# Altium schematic symbol library Amplifier_Operational.SchLib: 354 symbols (part 3 of 4)
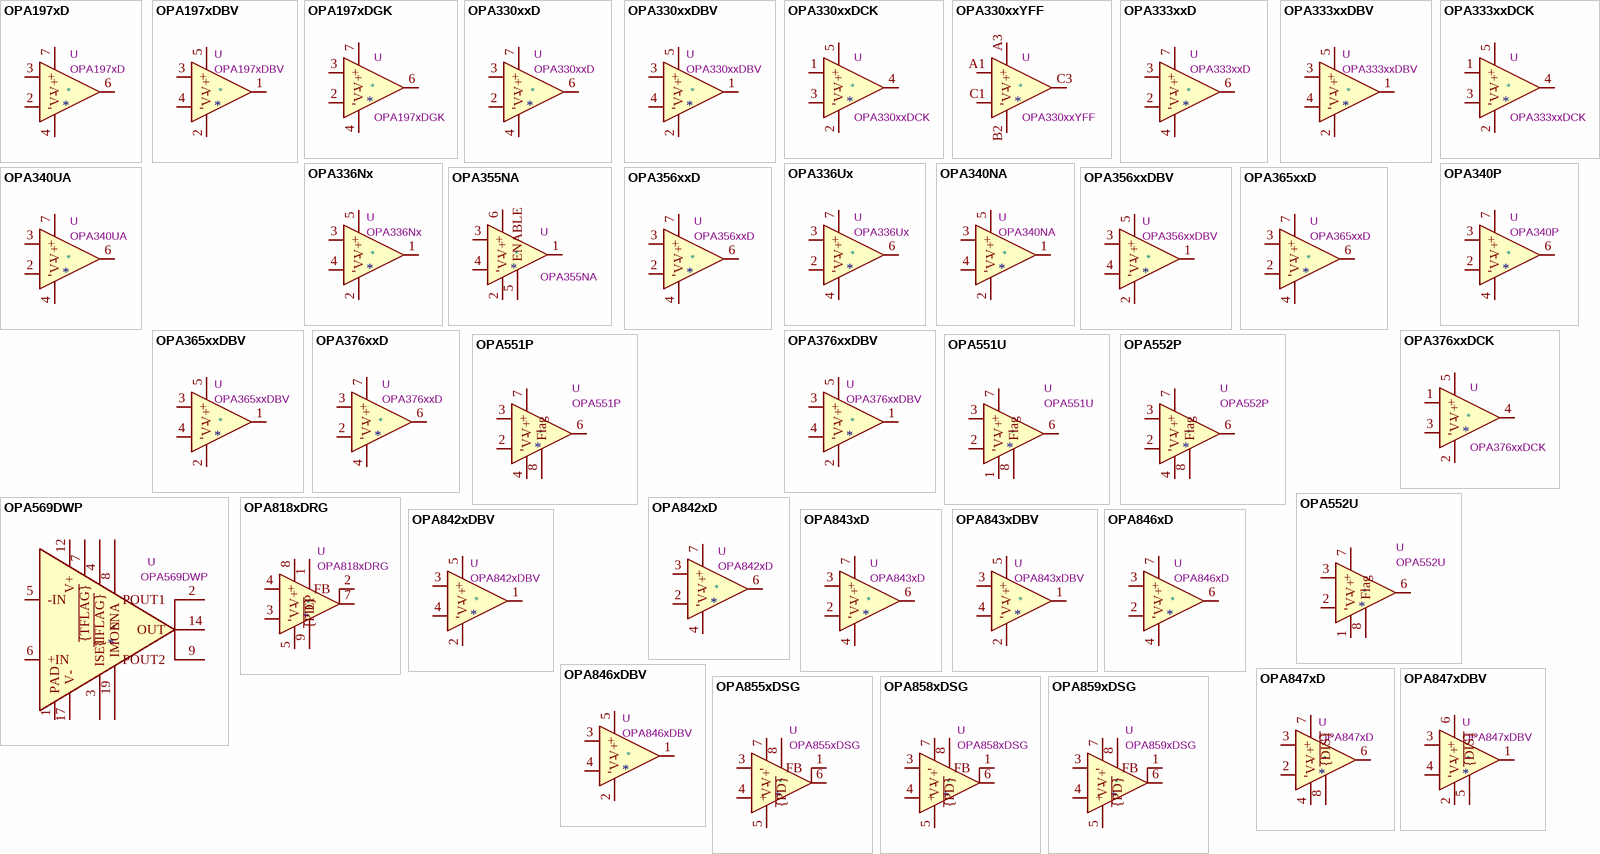
[diagram p21: symbols OPA197xD to OPA859xDSG]

## OPA376xxD
designator *  value OPA376xxD  Reference: U
ki_keywords: single opamp; ki_description: Single Low-Noise, Low Quiescent Current, Precision Operational Amplifier e-trim Series, SOIC-8; ki_fp_filters: SOIC*3.9x4.9mm*P1.27mm*; Footprint: Package_SO:SOIC-8_3.9x4.9mm_P1.27mm; Datasheet: http://www.ti.com/lit/ds/symlink/opa376.pdf
pins: 1 NC hidden, 2 -, 3 +, 4 V-, 5 NC hidden, 6, 7 V+, 8 NC hidden

## OPA376xxDBV
designator *  value OPA376xxDBV  Reference: U
ki_keywords: single opamp; ki_description: Single Low-Noise, Low Quiescent Current, Precision Operational Amplifier e-trim Series, SOT-23-5; ki_fp_filters: SOT?23*; Footprint: Package_TO_SOT_SMD:SOT-23-5; Datasheet: http://www.ti.com/lit/ds/symlink/opa376.pdf
pins: 1, 2 V-, 3 +, 4 -, 5 V+

## OPA376xxDCK
designator *  value OPA376xxDCK  Reference: U
ki_keywords: single opamp; ki_description: Single Low-Noise, Low Quiescent Current, Precision Operational Amplifier e-trim Series, SC-70-5; ki_fp_filters: SOT?23* *SC*70*; Datasheet: http://www.ti.com/lit/ds/symlink/opa376.pdf
pins: 1 +, 2 V-, 3 -, 4, 5 V+

## OPA551P
designator *  value OPA551P  Reference: U
ki_keywords: single opamp; ki_description: High-Voltage High-Current Operational Amplifier, bandwidth 3MHz, slew-rate 15V/us, DIP-8; ki_fp_filters: DIP*W7.62mm*; Footprint: Package_DIP:DIP-8_W7.62mm; Datasheet: http://www.ti.com/lit/ds/symlink/opa551.pdf
pins: 1 NC hidden, 2 -, 3 +, 4 V-, 5 NC hidden, 6, 7 V+, 8 Flag

## OPA551U
designator *  value OPA551U  Reference: U
ki_keywords: single opamp; ki_description: High-Voltage High-Current Operational Amplifier, bandwidth 3MHz, slew-rate 15V/us, SOIC-8; ki_fp_filters: SOIC*3.9x4.9mm*P1.27mm*; Footprint: Package_SO:SOIC-8_3.9x4.9mm_P1.27mm; Datasheet: http://www.ti.com/lit/ds/symlink/opa551.pdf
pins: 1 V-, 2 -, 3 +, 4 V- hidden, 5 V- hidden, 6, 7 V+, 8 Flag

## OPA552P
designator *  value OPA552P  Reference: U
ki_keywords: single opamp; ki_description: High-Voltage High-Current Operational Amplifier, bandwidth 12MHz, slew-rate 24V/us, DIP-8; ki_fp_filters: DIP*W7.62mm*; Footprint: Package_DIP:DIP-8_W7.62mm; Datasheet: http://www.ti.com/lit/ds/symlink/opa552.pdf
pins: 1 NC hidden, 2 -, 3 +, 4 V-, 5 NC hidden, 6, 7 V+, 8 Flag

## OPA552U
designator *  value OPA552U  Reference: U
ki_keywords: single opamp; ki_description: High-Voltage High-Current Operational Amplifier, bandwidth 12MHz, slew-rate 24V/us, SOIC-8; ki_fp_filters: SOIC*3.9x4.9mm*P1.27mm*; Footprint: Package_SO:SOIC-8_3.9x4.9mm_P1.27mm; Datasheet: http://www.ti.com/lit/ds/symlink/opa552.pdf
pins: 1 V-, 2 -, 3 +, 4 V- hidden, 5 V- hidden, 6, 7 V+, 8 Flag

## OPA569DWP
designator *  value OPA569DWP  Reference: U
ki_keywords: opamp single high current; ki_description: Rail-to-Rail I/O, 2A, Power Amplifier, SO-20; ki_fp_filters: SO*1EP*7.52x12.825mm*P1.27mm*; Footprint: Package_SO:SO-20-1EP_7.52x12.825mm_P1.27mm_EP6.045x12.09mm_Mask3.56x4.47mm; Datasheet: http://www.ti.com/lit/ds/symlink/opa569.pdf
pins: 1 PAD, 2 POUT1, 3 ISET, 4 ~{{IFLAG}}, 5 -IN, 6 +IN, 7 ~{{TFLAG}}, 8 ENA, 9 POUT2, 10 PAD hidden, 11 PAD hidden, 12 V+, 13 V+ hidden, 14 OUT, 15 OUT hidden, 16 NC hidden, 17 V-, 18 V- hidden, 19 IMON, 20 PAD hidden, 21 PAD hidden

## OPA818xDRG
designator *  value OPA818xDRG  Reference: U
ki_keywords: opamp VFA; ki_description: 2.7 GHz, High-Voltage, FET-Input, Low Noise, Operational Amplifier, WSON-8; ki_fp_filters: WSON*1EP*3x3mm*EP1.45x2.4mm*; Footprint: Package_SON:WSON-8-1EP_3x3mm_P0.5mm_EP1.45x2.4mm; Datasheet: https://www.ti.com/lit/ds/symlink/opa818.pdf
pins: 1 ~{{PD}}, 2 FB, 3 -, 4 +, 5 V-, 6 NC hidden, 7, 8 V+, 9 EP

## OPA842xD
designator *  value OPA842xD  Reference: U
ki_keywords: single opamp; ki_description: 200MHz, Low Distortion, Unity-Gain Stable, Voltage Feedback Operational Amplifier, SOIC-8; ki_fp_filters: SOIC*3.9x4.9mm*P1.27mm*; Footprint: Package_SO:SOIC-8_3.9x4.9mm_P1.27mm; Datasheet: http://www.ti.com/lit/ds/symlink/opa842.pdf
pins: 1 NC hidden, 2 -, 3 +, 4 V-, 5 NC hidden, 6, 7 V+, 8 NC hidden

## OPA842xDBV
designator *  value OPA842xDBV  Reference: U
ki_keywords: single opamp; ki_description: 200MHz, Low Distortion, Unity-Gain Stable, Voltage Feedback Operational Amplifier, SOT23-5; ki_fp_filters: SOT?23*; Footprint: Package_TO_SOT_SMD:SOT-23-5; Datasheet: http://www.ti.com/lit/ds/symlink/opa842.pdf
pins: 1, 2 V-, 3 +, 4 -, 5 V+

## OPA843xD
designator *  value OPA843xD  Reference: U
ki_keywords: single opamp low distortion; ki_description: 800MHz, Wideband, Low Distortion, Medium Gain, Voltage-Feedback Operational Amplifier, SOIC-8; ki_fp_filters: SOIC*3.9x4.9mm*P1.27mm*; Footprint: Package_SO:SOIC-8_3.9x4.9mm_P1.27mm; Datasheet: http://www.ti.com/lit/ds/symlink/opa843.pdf
pins: 1 NC hidden, 2 -, 3 +, 4 V-, 5 NC hidden, 6, 7 V+, 8 NC hidden

## OPA843xDBV
designator *  value OPA843xDBV  Reference: U
ki_keywords: single opamp low distortion; ki_description: 800MHz, Wideband, Low Distortion, Medium Gain, Voltage-Feedback Operational Amplifier, SOT-23-5; ki_fp_filters: SOT?23*; Footprint: Package_TO_SOT_SMD:SOT-23-5; Datasheet: http://www.ti.com/lit/ds/symlink/opa843.pdf
pins: 1, 2 V-, 3 +, 4 -, 5 V+

## OPA846xD
designator *  value OPA846xD  Reference: U
ki_keywords: single opamp; ki_description: 1750MHz, Wideband, Low-Noise, Voltage Feedback Operational Amplifier, SOIC-8; ki_fp_filters: SOIC*3.9x4.9mm*P1.27mm*; Footprint: Package_SO:SOIC-8_3.9x4.9mm_P1.27mm; Datasheet: http://www.ti.com/lit/ds/symlink/opa846.pdf
pins: 1 NC hidden, 2 -, 3 +, 4 V-, 5 NC hidden, 6, 7 V+, 8 NC hidden

## OPA846xDBV
designator *  value OPA846xDBV  Reference: U
ki_keywords: single opamp; ki_description: 1750MHz, Wideband, Low-Noise, Voltage Feedback Operational Amplifier, SOT23-5; ki_fp_filters: SOT?23*; Footprint: Package_TO_SOT_SMD:SOT-23-5; Datasheet: http://www.ti.com/lit/ds/symlink/opa846.pdf
pins: 1, 2 V-, 3 +, 4 -, 5 V+

## OPA847xD
designator *  value OPA847xD  Reference: U
ki_keywords: single opamp wideband low-power; ki_description: Single Low-Power, 3.9GHz, Wideband, Ultra-Low Noise, Voltage-Feedback Operational Amplifier with Disable, SO-8; ki_fp_filters: SOIC*3.9x4.9mm*P1.27mm*; Footprint: Package_SO:SOIC-8_3.9x4.9mm_P1.27mm; Datasheet: http://www.ti.com/lit/ds/symlink/opa847.pdf
pins: 1 NC hidden, 2 -, 3 +, 4 V-, 5 NC hidden, 6, 7 V+, 8 ~{{DIS}}

## OPA847xDBV
designator *  value OPA847xDBV  Reference: U
ki_keywords: single opamp wideband low-power; ki_description: Single Low-Power, 3.9GHz, Wideband, Ultra-Low Noise, Voltage-Feedback Operational Amplifier with Disable, SOT-23-6; ki_fp_filters: SOT?23*; Footprint: Package_TO_SOT_SMD:SOT-23-6; Datasheet: http://www.ti.com/lit/ds/symlink/opa847.pdf
pins: 1, 2 V-, 3 +, 4 -, 5 ~{{DIS}}, 6 V+

## OPA855xDSG
designator *  value OPA855xDSG  Reference: U
ki_keywords: opamp VFA; ki_description: 8-GHz Gain Bandwidth Product, Gain of 7-V/V Stable, Bipolar Input Amplifier, WSON-8; ki_fp_filters: WSON*1EP*2x2mm*P0.5mm*; Footprint: Package_SON:WSON-8-1EP_2x2mm_P0.5mm_EP0.9x1.6mm; Datasheet: http://www.ti.com/lit/ds/symlink/opa855.pdf
pins: 1 FB, 2 NC hidden, 3 -, 4 +, 5 V-, 6, 7 V+, 8 ~{{PD}}, 9 V- hidden

## OPA858xDSG
designator *  value OPA858xDSG  Reference: U
ki_keywords: opamp VFA; ki_description: 5.5-GHz Gain Bandwidth Product, Gain of 7 V/V Stable, FET Input Amplifier, WSON-8; ki_fp_filters: WSON*1EP*2x2mm*P0.5mm*; Footprint: Package_SON:WSON-8-1EP_2x2mm_P0.5mm_EP0.9x1.6mm; Datasheet: http://www.ti.com/lit/ds/symlink/opa858.pdf
pins: 1 FB, 2 NC hidden, 3 -, 4 +, 5 V-, 6, 7 V+, 8 ~{{PD}}, 9 V- hidden

## OPA859xDSG
designator *  value OPA859xDSG  Reference: U
ki_keywords: opamp VFA; ki_description: 1.8 GHz Unity-Gain Bandwidth FET Input Amplifier, WSON-8; ki_fp_filters: WSON*1EP*2x2mm*P0.5mm*; Footprint: Package_SON:WSON-8-1EP_2x2mm_P0.5mm_EP0.9x1.6mm; Datasheet: http://www.ti.com/lit/ds/symlink/opa859.pdf
pins: 1 FB, 2 NC hidden, 3 -, 4 +, 5 V-, 6, 7 V+, 8 ~{{PD}}, 9 V- hidden

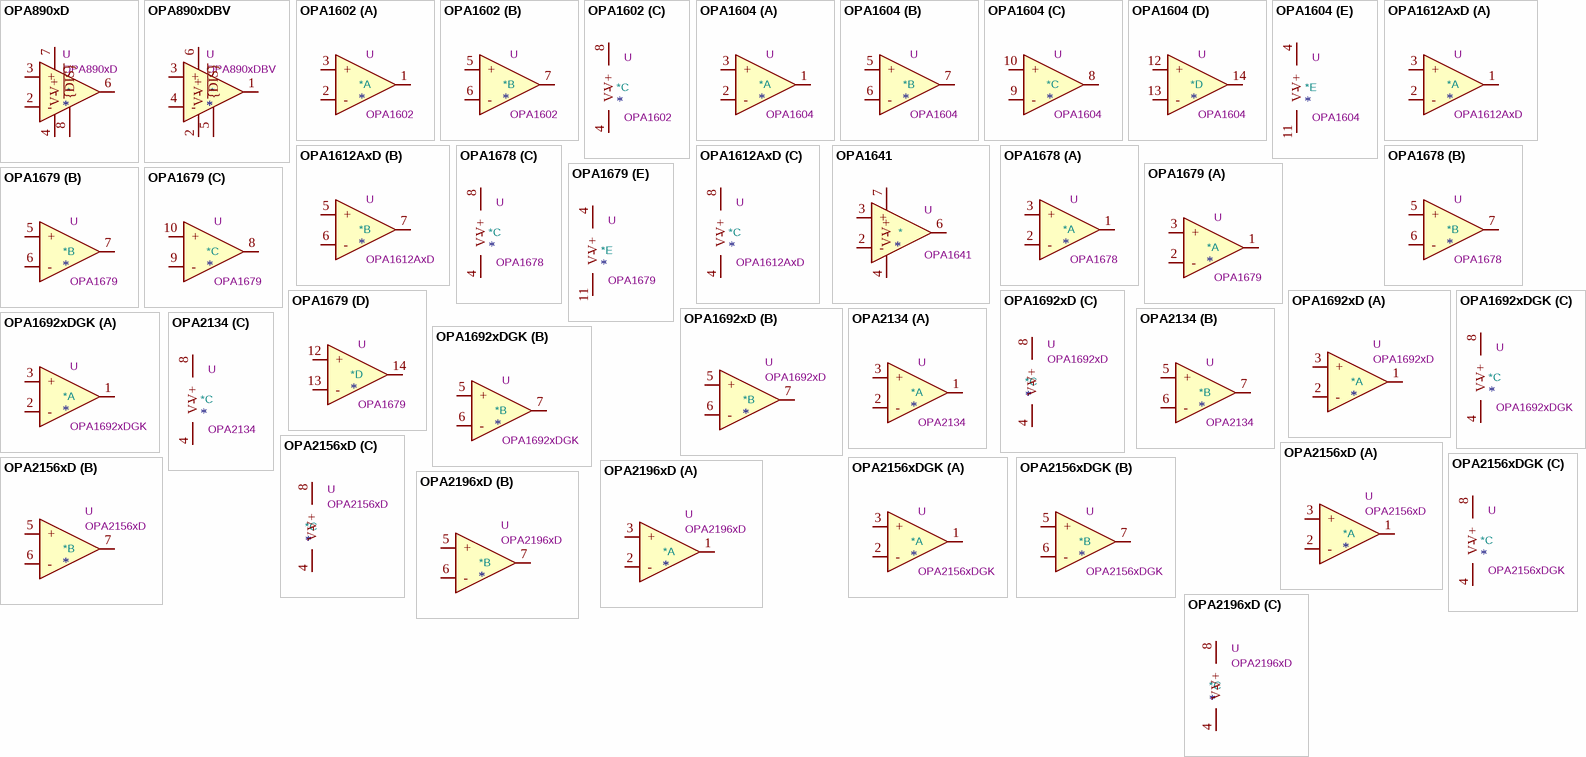
[diagram p13: symbols OPA890xD to OPA2196xD]

## OPA890xD
designator *  value OPA890xD  Reference: U
ki_keywords: single opamp wideband low-power; ki_description: Single Low-Power, Wideband, Voltage-Feedback Operational Amplifier with Disable, SO-8; ki_fp_filters: SOIC*3.9x4.9mm*P1.27mm*; Footprint: Package_SO:SOIC-8_3.9x4.9mm_P1.27mm; Datasheet: https://www.ti.com/lit/ds/symlink/opa890.pdf
pins: 1 NC hidden, 2 -, 3 +, 4 V-, 5 NC hidden, 6, 7 V+, 8 ~{{DIS}}

## OPA890xDBV
designator *  value OPA890xDBV  Reference: U
ki_keywords: single opamp wideband low-power; ki_description: Single Low-Power, Wideband, Voltage-Feedback Operational Amplifier with Disable, SOT-23-6; ki_fp_filters: SOT?23*; Footprint: Package_TO_SOT_SMD:SOT-23-6; Datasheet: https://www.ti.com/lit/ds/symlink/opa890.pdf
pins: 1, 2 V-, 3 +, 4 -, 5 ~{{DIS}}, 6 V+

## OPA1602
designator *  value OPA1602  Reference: U
ki_keywords: dual opamp; ki_description: Dual SoundPlus High Performance, Bipolar-Input Audio Operational Amplifiers, SOIC-8/MSOP-8; ki_fp_filters: SOIC*3.9x4.9mm*P1.27mm* DIP*W7.62mm* TO*99* OnSemi*Micro8* TSSOP*3x3mm*P0.65mm* TSSOP*4.4x3mm*P0.65mm* MSOP*3x3mm*P0.65mm* SSOP*3.9x4.9mm*P0.635mm* LFCSP*2x2mm*P0.5mm* *SIP* SOIC*5.3x6.2mm*P1.27mm*; Datasheet: http://www.ti.com/lit/ds/symlink/opa1604.pdf
part A pins: 1, 2 -, 3 +
part B pins: 5 +, 6 -, 7
part C pins: 4 V-, 8 V+

## OPA1604
designator *  value OPA1604  Reference: U
ki_keywords: quad opamp; ki_description: Quad SoundPlus High Performance, Bipolar-Input Audio Operational Amplifiers, SOIC-14/TSSOP-14; ki_fp_filters: SOIC*3.9x8.7mm*P1.27mm* DIP*W7.62mm* TSSOP*4.4x5mm*P0.65mm* SSOP*5.3x6.2mm*P0.65mm* MSOP*3x3mm*P0.5mm*; Datasheet: http://www.ti.com/lit/ds/symlink/opa1604.pdf
part A pins: 1, 2 -, 3 +
part B pins: 5 +, 6 -, 7
part C pins: 8, 9 -, 10 +
part D pins: 12 +, 13 -, 14
part E pins: 4 V+, 11 V-

## OPA1612AxD
designator *  value OPA1612AxD  Reference: U
ki_keywords: dual opamp; ki_description: Dual SoundPlus High Performance, Bipolar-Input Audio Operational Amplifiers, SOIC-8; ki_fp_filters: SOIC*3.9x4.9mm*P1.27mm* DIP*W7.62mm* TO*99* OnSemi*Micro8* TSSOP*3x3mm*P0.65mm* TSSOP*4.4x3mm*P0.65mm* MSOP*3x3mm*P0.65mm* SSOP*3.9x4.9mm*P0.635mm* LFCSP*2x2mm*P0.5mm* *SIP* SOIC*5.3x6.2mm*P1.27mm*; Datasheet: http://www.ti.com/lit/ds/symlink/opa1612.pdf
part A pins: 1, 2 -, 3 +
part B pins: 5 +, 6 -, 7
part C pins: 4 V-, 8 V+

## OPA1641
designator *  value OPA1641  Reference: U
ki_keywords: single opamp; ki_description: JFET input, ultralow distortion, low-noise operational amplifier, SOIC-8/VSSOP-8; ki_fp_filters: SOIC*3.9x4.9mm*P1.27mm* VSSOP*3.0x3.0mm*P0.65mm*; Datasheet: http://www.ti.com/lit/ds/symlink/opa1641.pdf
pins: 1 NC hidden, 2 -, 3 +, 4 V-, 5 NC hidden, 6, 7 V+, 8 NC hidden

## OPA1678
designator *  value OPA1678  Reference: U
ki_keywords: dual opamp; ki_description: Low-Distortion Audio Operational Amplifiers, SOIC-8/VSSOP-8; ki_fp_filters: SOIC*3.9x4.9mm*P1.27mm* DIP*W7.62mm* TO*99* OnSemi*Micro8* TSSOP*3x3mm*P0.65mm* TSSOP*4.4x3mm*P0.65mm* MSOP*3x3mm*P0.65mm* SSOP*3.9x4.9mm*P0.635mm* LFCSP*2x2mm*P0.5mm* *SIP* SOIC*5.3x6.2mm*P1.27mm*; Datasheet: http://www.ti.com/lit/ds/symlink/opa1678.pdf
part A pins: 1, 2 -, 3 +
part B pins: 5 +, 6 -, 7
part C pins: 4 V-, 8 V+

## OPA1679
designator *  value OPA1679  Reference: U
ki_keywords: quad opamp; ki_description: Low-Distortion Audio Operational Amplifiers, SOIC-14/TSSOP-14; ki_fp_filters: SOIC*3.9x8.7mm*P1.27mm* DIP*W7.62mm* TSSOP*4.4x5mm*P0.65mm* SSOP*5.3x6.2mm*P0.65mm* MSOP*3x3mm*P0.5mm*; Datasheet: http://www.ti.com/lit/ds/symlink/opa1678.pdf
part A pins: 1, 2 -, 3 +
part B pins: 5 +, 6 -, 7
part C pins: 8, 9 -, 10 +
part D pins: 12 +, 13 -, 14
part E pins: 4 V+, 11 V-

## OPA1692xD
designator *  value OPA1692xD  Reference: U
ki_keywords: VFA opamp; ki_description: Dual SoundPlus Low Power, Low Noise & Low Distortion Audio Operational Amplifiers, SOIC-8; ki_fp_filters: SOIC*3.9x4.9mm*P1.27mm*; Footprint: Package_SO:SOIC-8_3.9x4.9mm_P1.27mm; Datasheet: https://www.ti.com/lit/ds/symlink/opa1692.pdf
part A pins: 1, 2 -, 3 +
part B pins: 5 +, 6 -, 7
part C pins: 4 V-, 8 V+

## OPA1692xDGK
designator *  value OPA1692xDGK  Reference: U
ki_keywords: VFA opamp; ki_description: Dual SoundPlus Low Power, Low Noise & Low Distortion Audio Operational Amplifiers, VSSOP-8; ki_fp_filters: VSSOP*3.0x3.0mm*P0.65mm*; Footprint: Package_SO:VSSOP-8_3.0x3.0mm_P0.65mm; Datasheet: https://www.ti.com/lit/ds/symlink/opa1692.pdf
part A pins: 1, 2 -, 3 +
part B pins: 5 +, 6 -, 7
part C pins: 4 V-, 8 V+

## OPA2134
designator *  value OPA2134  Reference: U
ki_keywords: dual opamp; ki_description: Dual SoundPlus High Performance Audio Operational Amplifiers, DIP-8/SOIC-8; ki_fp_filters: SOIC*3.9x4.9mm*P1.27mm* DIP*W7.62mm* TO*99* OnSemi*Micro8* TSSOP*3x3mm*P0.65mm* TSSOP*4.4x3mm*P0.65mm* MSOP*3x3mm*P0.65mm* SSOP*3.9x4.9mm*P0.635mm* LFCSP*2x2mm*P0.5mm* *SIP* SOIC*5.3x6.2mm*P1.27mm*; Datasheet: http://www.ti.com/lit/ds/symlink/opa134.pdf
part A pins: 1, 2 -, 3 +
part B pins: 5 +, 6 -, 7
part C pins: 4 V-, 8 V+

## OPA2156xD
designator *  value OPA2156xD  Reference: U
ki_keywords: dual opamp low-noise r2r; ki_description: Dual 36V, Ultra Low Noise, Rail-to-Rail Input/Output, Low Offset Voltage, Operational Amplifier, SOIC-8; ki_fp_filters: SOIC*3.9x4.9mm*P1.27mm*; Footprint: Package_SO:SOIC-8_3.9x4.9mm_P1.27mm; Datasheet: https://www.ti.com/lit/ds/symlink/opa2156.pdf
part A pins: 1, 2 -, 3 +
part B pins: 5 +, 6 -, 7
part C pins: 4 V-, 8 V+

## OPA2156xDGK
designator *  value OPA2156xDGK  Reference: U
ki_keywords: dual opamp low-noise r2r; ki_description: Dual 36V, Ultra Low Noise, Rail-to-Rail Input/Output, Low Offset Voltage, Operational Amplifier, VSSOP-8; ki_fp_filters: VSSOP*3.0x3.0mm*P0.65mm*; Footprint: Package_SO:VSSOP-8_3.0x3.0mm_P0.65mm; Datasheet: http://www.ti.com/lit/ds/symlink/opa2156.pdf
part A pins: 1, 2 -, 3 +
part B pins: 5 +, 6 -, 7
part C pins: 4 V-, 8 V+

## OPA2196xD
designator *  value OPA2196xD  Reference: U
ki_keywords: dual opamp low-power; ki_description: Dual, Low-Power, Low Offset Voltage, Rail-to-Rail Operational Amplifier, SOIC-8; ki_fp_filters: SOIC*3.9x4.9mm*P1.27mm*; Footprint: Package_SO:SOIC-8_3.9x4.9mm_P1.27mm; Datasheet: http://www.ti.com/lit/ds/symlink/opa4196.pdf
part A pins: 1, 2 -, 3 +
part B pins: 5 +, 6 -, 7
part C pins: 4 V-, 8 V+

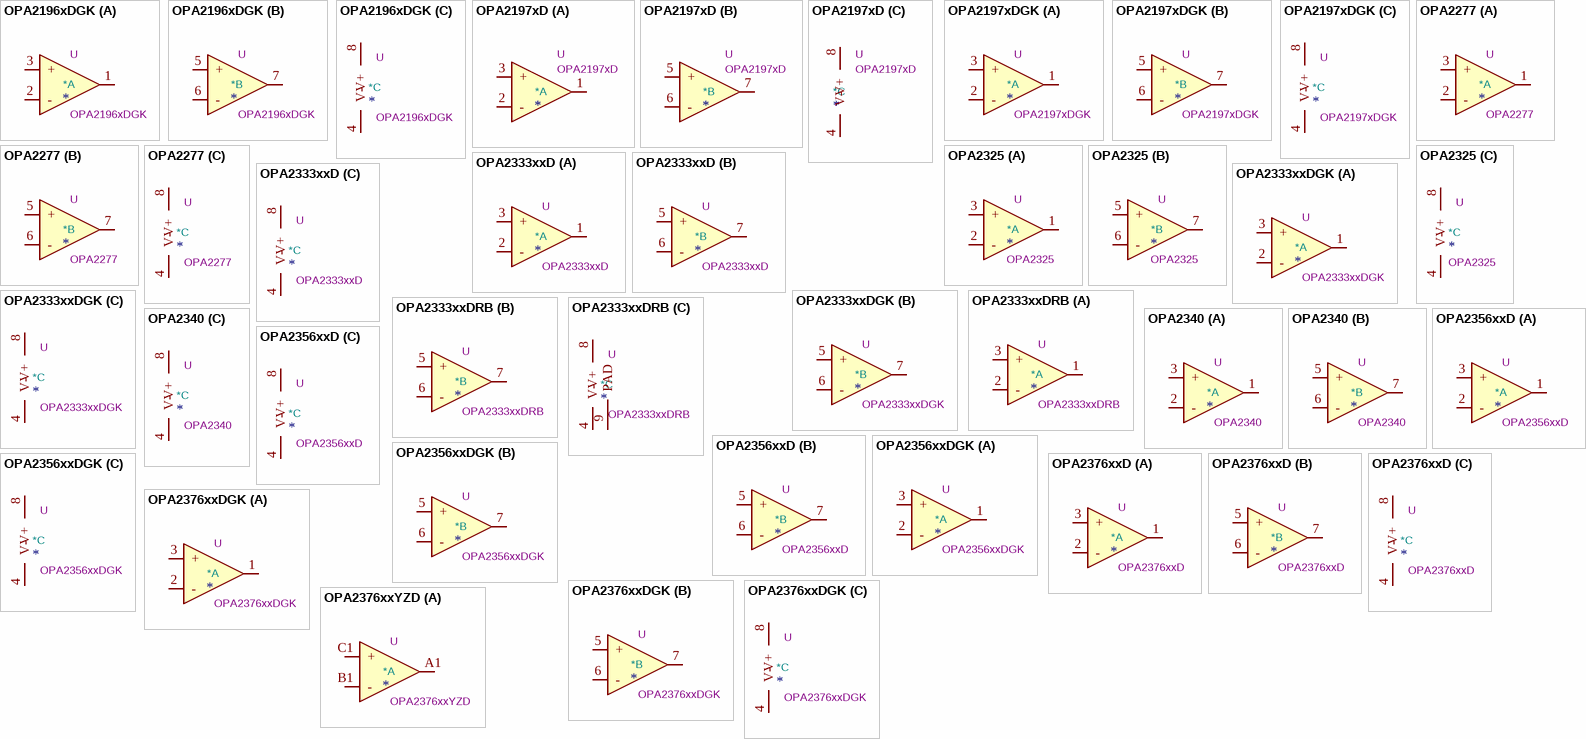
[diagram p14: symbols OPA2196xDGK to OPA2376xxYZD]

## OPA2196xDGK
designator *  value OPA2196xDGK  Reference: U
ki_keywords: dual opamp rtor; ki_description: Dual, Low-Power, Low Offset Voltage, Rail-to-Rail Operational Amplifier, VSSOP-8; ki_fp_filters: VSSOP*3.0x3.0mm*P0.65mm*; Footprint: Package_SO:VSSOP-8_3.0x3.0mm_P0.65mm; Datasheet: http://www.ti.com/lit/ds/symlink/opa4196.pdf
part A pins: 1, 2 -, 3 +
part B pins: 5 +, 6 -, 7
part C pins: 4 V-, 8 V+

## OPA2197xD
designator *  value OPA2197xD  Reference: U
ki_keywords: dual opamp rtor; ki_description: Dual 36V, Precision, Rail-to-Rail Input/Output, Low Offset Voltage, Operational Amplifier, SOIC-8; ki_fp_filters: SOIC*3.9x4.9mm*P1.27mm*; Footprint: Package_SO:SOIC-8_3.9x4.9mm_P1.27mm; Datasheet: http://www.ti.com/lit/ds/symlink/opa2197.pdf
part A pins: 1, 2 -, 3 +
part B pins: 5 +, 6 -, 7
part C pins: 4 V-, 8 V+

## OPA2197xDGK
designator *  value OPA2197xDGK  Reference: U
ki_keywords: dual opamp rtor; ki_description: Dual 36V, Precision, Rail-to-Rail Input/Output, Low Offset Voltage, Operational Amplifier, VSSOP-8; ki_fp_filters: VSSOP*3.0x3.0mm*P0.65mm*; Footprint: Package_SO:VSSOP-8_3.0x3.0mm_P0.65mm; Datasheet: http://www.ti.com/lit/ds/symlink/opa2197.pdf
part A pins: 1, 2 -, 3 +
part B pins: 5 +, 6 -, 7
part C pins: 4 V-, 8 V+

## OPA2277
designator *  value OPA2277  Reference: U
ki_keywords: dual opamp; ki_description: Dual High Precision Operational Amplifiers, DIP-8/SOIC-8; ki_fp_filters: SOIC*3.9x4.9mm*P1.27mm* DIP*W7.62mm* TO*99* OnSemi*Micro8* TSSOP*3x3mm*P0.65mm* TSSOP*4.4x3mm*P0.65mm* MSOP*3x3mm*P0.65mm* SSOP*3.9x4.9mm*P0.635mm* LFCSP*2x2mm*P0.5mm* *SIP* SOIC*5.3x6.2mm*P1.27mm*; Datasheet: https://www.ti.com/lit/ds/symlink/opa2277.pdf
part A pins: 1, 2 -, 3 +
part B pins: 5 +, 6 -, 7
part C pins: 4 V-, 8 V+

## OPA2325
designator *  value OPA2325  Reference: U
ki_keywords: dual opamp; ki_description: Precision, 10-MHz, Low-Noise, Low-Power, RRIO, CMOS Operational Amplifier, SOIC-8; ki_fp_filters: SOIC*3.9x4.9mm*P1.27mm*; Footprint: Package_SO:SOIC-8_3.9x4.9mm_P1.27mm; Datasheet: http://www.ti.com/lit/ds/symlink/opa2325.pdf
part A pins: 1, 2 -, 3 +
part B pins: 5 +, 6 -, 7
part C pins: 4 V-, 8 V+

## OPA2333xxD
designator *  value OPA2333xxD  Reference: U
ki_keywords: dual opamp; ki_description: Dual 1.8V, microPower, CMOS Operational Amplifiers, Zero-Drift Series, SOIC-8; ki_fp_filters: SOIC*3.9x4.9mm*P1.27mm* DIP*W7.62mm* TO*99* OnSemi*Micro8* TSSOP*3x3mm*P0.65mm* TSSOP*4.4x3mm*P0.65mm* MSOP*3x3mm*P0.65mm* SSOP*3.9x4.9mm*P0.635mm* LFCSP*2x2mm*P0.5mm* *SIP* SOIC*5.3x6.2mm*P1.27mm*; Datasheet: http://www.ti.com/lit/ds/symlink/opa333.pdf
part A pins: 1, 2 -, 3 +
part B pins: 5 +, 6 -, 7
part C pins: 4 V-, 8 V+

## OPA2333xxDGK
designator *  value OPA2333xxDGK  Reference: U
ki_keywords: dual opamp; ki_description: Dual 1.8V, microPower, CMOS Operational Amplifiers, Zero-Drift Series, VSSOP-8; ki_fp_filters: SOIC*3.9x4.9mm*P1.27mm* DIP*W7.62mm* TO*99* OnSemi*Micro8* TSSOP*3x3mm*P0.65mm* TSSOP*4.4x3mm*P0.65mm* MSOP*3x3mm*P0.65mm* SSOP*3.9x4.9mm*P0.635mm* LFCSP*2x2mm*P0.5mm* *SIP* SOIC*5.3x6.2mm*P1.27mm*; Datasheet: http://www.ti.com/lit/ds/symlink/opa333.pdf
part A pins: 1, 2 -, 3 +
part B pins: 5 +, 6 -, 7
part C pins: 4 V-, 8 V+

## OPA2333xxDRB
designator *  value OPA2333xxDRB  Reference: U
ki_keywords: dual opamp; ki_description: Dual 1.8V, microPower, CMOS Operational Amplifiers, Zero-Drift Series, SON-8; ki_fp_filters: Texas*PVSON*; Footprint: Package_SON:Texas_S-PVSON-N8; Datasheet: http://www.ti.com/lit/ds/symlink/opa333.pdf
part A pins: 1, 2 -, 3 +
part B pins: 5 +, 6 -, 7
part C pins: 4 V-, 8 V+, 9 PAD

## OPA2340
designator *  value OPA2340  Reference: U
ki_keywords: dual opamp; ki_description: Dual Single-Supply, Rail-to-Rail Operational Amplifiers, MicroAmplifier Series, DIP-8/SOIC-8/SSOP-8; ki_fp_filters: SOIC*3.9x4.9mm*P1.27mm* DIP*W7.62mm* TO*99* OnSemi*Micro8* TSSOP*3x3mm*P0.65mm* TSSOP*4.4x3mm*P0.65mm* MSOP*3x3mm*P0.65mm* SSOP*3.9x4.9mm*P0.635mm* LFCSP*2x2mm*P0.5mm* *SIP* SOIC*5.3x6.2mm*P1.27mm*; Datasheet: http://www.ti.com/lit/ds/symlink/opa4340.pdf
part A pins: 1, 2 -, 3 +
part B pins: 5 +, 6 -, 7
part C pins: 4 V-, 8 V+

## OPA2356xxD
designator *  value OPA2356xxD  Reference: U
ki_keywords: dual opamp; ki_description: Dual High Speed CMOS Operational Amplifiers, SOIC-8; ki_fp_filters: SOIC*3.9x4.9mm*P1.27mm* DIP*W7.62mm* TO*99* OnSemi*Micro8* TSSOP*3x3mm*P0.65mm* TSSOP*4.4x3mm*P0.65mm* MSOP*3x3mm*P0.65mm* SSOP*3.9x4.9mm*P0.635mm* LFCSP*2x2mm*P0.5mm* *SIP* SOIC*5.3x6.2mm*P1.27mm*; Datasheet: http://www.ti.com/lit/ds/symlink/opa2356.pdf
part A pins: 1, 2 -, 3 +
part B pins: 5 +, 6 -, 7
part C pins: 4 V-, 8 V+

## OPA2356xxDGK
designator *  value OPA2356xxDGK  Reference: U
ki_keywords: dual opamp; ki_description: Dual High Speed CMOS Operational Amplifiers, VSSOP-8; ki_fp_filters: SOIC*3.9x4.9mm*P1.27mm* DIP*W7.62mm* TO*99* OnSemi*Micro8* TSSOP*3x3mm*P0.65mm* TSSOP*4.4x3mm*P0.65mm* MSOP*3x3mm*P0.65mm* SSOP*3.9x4.9mm*P0.635mm* LFCSP*2x2mm*P0.5mm* *SIP* SOIC*5.3x6.2mm*P1.27mm*; Datasheet: http://www.ti.com/lit/ds/symlink/opa2356.pdf
part A pins: 1, 2 -, 3 +
part B pins: 5 +, 6 -, 7
part C pins: 4 V-, 8 V+

## OPA2376xxD
designator *  value OPA2376xxD  Reference: U
ki_keywords: dual opamp; ki_description: Dual Low-Noise, Low Quiescent Current, Precision Operational Amplifier e-trim Series, SOIC-8; ki_fp_filters: SOIC*3.9x4.9mm*P1.27mm* DIP*W7.62mm* TO*99* OnSemi*Micro8* TSSOP*3x3mm*P0.65mm* TSSOP*4.4x3mm*P0.65mm* MSOP*3x3mm*P0.65mm* SSOP*3.9x4.9mm*P0.635mm* LFCSP*2x2mm*P0.5mm* *SIP* SOIC*5.3x6.2mm*P1.27mm*; Datasheet: http://www.ti.com/lit/ds/symlink/opa376.pdf
part A pins: 1, 2 -, 3 +
part B pins: 5 +, 6 -, 7
part C pins: 4 V-, 8 V+

## OPA2376xxDGK
designator *  value OPA2376xxDGK  Reference: U
ki_keywords: dual opamp; ki_description: Dual Low-Noise, Low Quiescent Current, Precision Operational Amplifier e-trim Series, VSSOP-8; ki_fp_filters: SOIC*3.9x4.9mm*P1.27mm* DIP*W7.62mm* TO*99* OnSemi*Micro8* TSSOP*3x3mm*P0.65mm* TSSOP*4.4x3mm*P0.65mm* MSOP*3x3mm*P0.65mm* SSOP*3.9x4.9mm*P0.635mm* LFCSP*2x2mm*P0.5mm* *SIP* SOIC*5.3x6.2mm*P1.27mm*; Datasheet: http://www.ti.com/lit/ds/symlink/opa376.pdf
part A pins: 1, 2 -, 3 +
part B pins: 5 +, 6 -, 7
part C pins: 4 V-, 8 V+

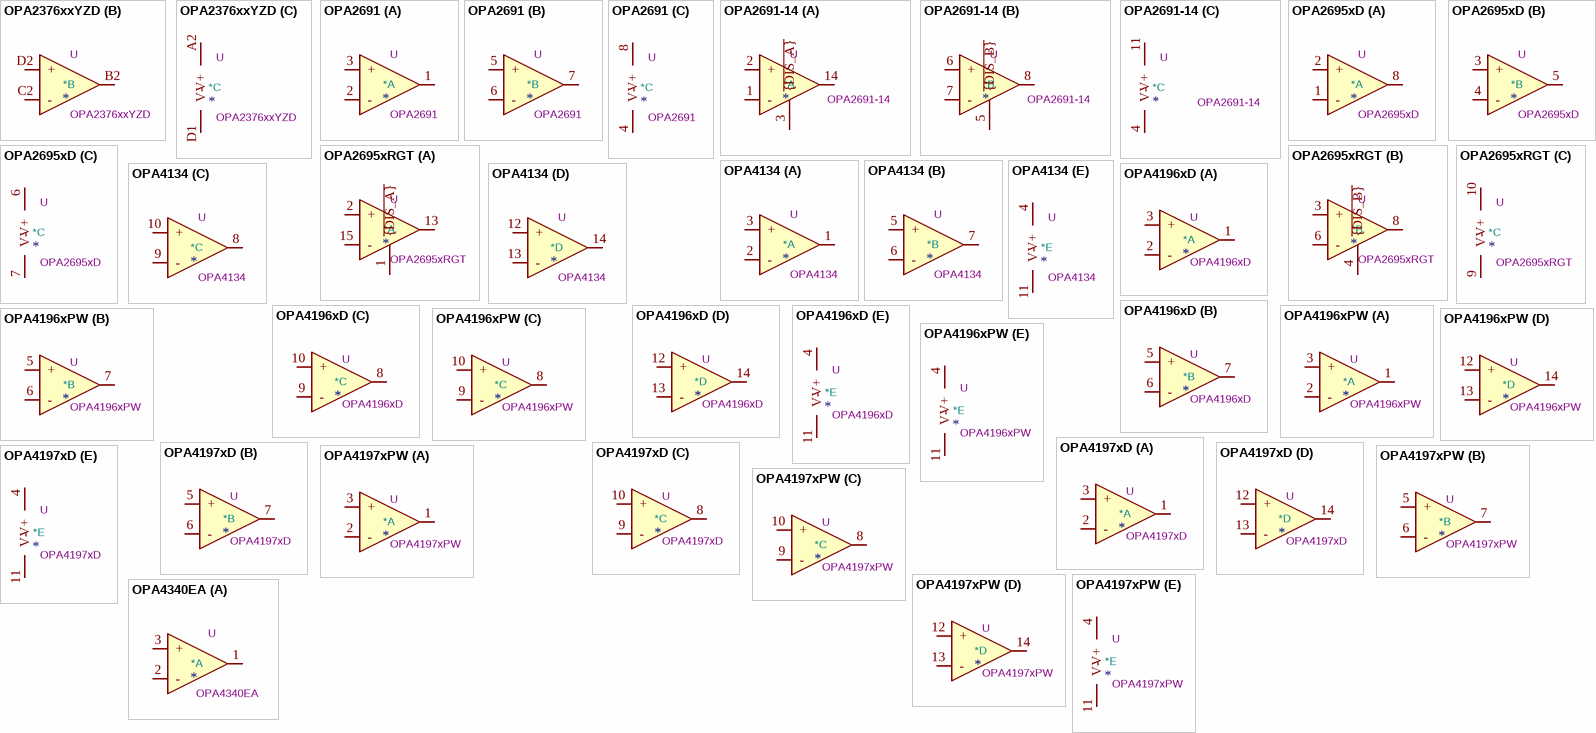
[diagram p15: symbols OPA2376xxYZD to OPA4340EA]

## OPA2376xxYZD
designator *  value OPA2376xxYZD  Reference: U
ki_keywords: dual opamp; ki_description: Dual Low-Noise, Low Quiescent Current, Precision Operational Amplifier e-trim Series, DSBGA-8; ki_fp_filters: Texas*DSBGA*0.9x1.9mm*0.5mm*; Footprint: Package_BGA:Texas_DSBGA-8_0.9x1.9mm_Layout2x4_P0.5mm; Datasheet: http://www.ti.com/lit/ds/symlink/opa376.pdf
part A pins: A1, B1 -, C1 +
part B pins: B2, C2 -, D2 +
part C pins: A2 V+, D1 V-

## OPA2691
designator *  value OPA2691  Reference: U
ki_keywords: dual current feedback opamp; ki_description: Dual Wideband, Current-Feedback Operational Amplifier, SOIC-8; ki_fp_filters: SOIC*3.9x4.9mm*P1.27mm* DIP*W7.62mm* TO*99* OnSemi*Micro8* TSSOP*3x3mm*P0.65mm* TSSOP*4.4x3mm*P0.65mm* MSOP*3x3mm*P0.65mm* SSOP*3.9x4.9mm*P0.635mm* LFCSP*2x2mm*P0.5mm* *SIP* SOIC*5.3x6.2mm*P1.27mm*; Datasheet: http://www.ti.com/lit/ds/sbos224d/sbos224d.pdf
part A pins: 1, 2 -, 3 +
part B pins: 5 +, 6 -, 7
part C pins: 4 V-, 8 V+

## OPA2691-14
designator *  value OPA2691-14  Reference: U
ki_keywords: dual current feedback opamp; ki_description: Dual Wideband, Current-Feedback Operational Amplifier With Disable, SOIC-14; ki_fp_filters: SOIC*3.9x8.7mm*P1.27mm*; Footprint: Package_SO:SOIC-14_3.9x8.7mm_P1.27mm; Datasheet: http://www.ti.com/lit/ds/sbos224d/sbos224d.pdf
part A pins: 1 -, 2 +, 3 ~{{DIS_A}}, 9 NC hidden, 10 NC hidden, 14
part B pins: 5 ~{{DIS_B}}, 6 +, 7 -, 8, 12 NC hidden, 13 NC hidden
part C pins: 4 V-, 11 V+

## OPA2695xD
designator *  value OPA2695xD  Reference: U
ki_keywords: dual opamp; ki_description: Dual, Ultra-Wideband, Current-Feedback Operational Amplifier with Disable, SOIC-8; ki_fp_filters: SOIC*3.9x4.9mm*P1.27mm*; Footprint: Package_SO:SOIC-8_3.9x4.9mm_P1.27mm; Datasheet: http://www.ti.com/lit/ds/sbos354a/sbos354a.pdf
part A pins: 1 -, 2 +, 8
part B pins: 3 +, 4 -, 5
part C pins: 6 V+, 7 V-

## OPA2695xRGT
designator *  value OPA2695xRGT  Reference: U
ki_keywords: dual opamp; ki_description: Dual, Ultra-Wideband, Current-Feedback Operational Amplifier with Disable, QFN-16; ki_fp_filters: VQFN*1EP*3x3mm*P0.5mm*; Footprint: Package_DFN_QFN:VQFN-16-1EP_3x3mm_P0.5mm_EP1.45x1.45mm_ThermalVias; Datasheet: http://www.ti.com/lit/ds/sbos354a/sbos354a.pdf
part A pins: 1 ~{{DIS_A}}, 2 +, 5 NC hidden, 13, 14 NC hidden, 15 -
part B pins: 3 +, 4 ~{{DIS_B}}, 6 -, 7 NC hidden, 8, 16 NC hidden
part C pins: 9 V-, 10 V+, 11 V+ hidden, 12 V- hidden

## OPA4134
designator *  value OPA4134  Reference: U
ki_keywords: quad opamp; ki_description: Quad SoundPlus High Performance Audio Operational Amplifiers, SOIC-14; ki_fp_filters: SOIC*3.9x8.7mm*P1.27mm* DIP*W7.62mm* TSSOP*4.4x5mm*P0.65mm* SSOP*5.3x6.2mm*P0.65mm* MSOP*3x3mm*P0.5mm*; Datasheet: http://www.ti.com/lit/ds/symlink/opa134.pdf
part A pins: 1, 2 -, 3 +
part B pins: 5 +, 6 -, 7
part C pins: 8, 9 -, 10 +
part D pins: 12 +, 13 -, 14
part E pins: 4 V+, 11 V-

## OPA4196xD
designator *  value OPA4196xD  Reference: U
ki_keywords: quad opamp rtor; ki_description: Quad, Low-Power, Low Offset Voltage, Rail-to-Rail Operational Amplifier, SOIC-14; ki_fp_filters: SOIC*3.9x8.7mm*P1.27mm*; Footprint: Package_SO:SOIC-14_3.9x8.7mm_P1.27mm; Datasheet: http://www.ti.com/lit/ds/symlink/opa4196.pdf
part A pins: 1, 2 -, 3 +
part B pins: 5 +, 6 -, 7
part C pins: 8, 9 -, 10 +
part D pins: 12 +, 13 -, 14
part E pins: 4 V+, 11 V-

## OPA4196xPW
designator *  value OPA4196xPW  Reference: U
ki_keywords: quad opamp rtor; ki_description: Quad, Low-Power, Low Offset Voltage, Rail-to-Rail Operational Amplifier, TSSOP-14; ki_fp_filters: TSSOP*4.4x5mm*P0.65mm*; Footprint: Package_SO:TSSOP-14_4.4x5mm_P0.65mm; Datasheet: http://www.ti.com/lit/ds/symlink/opa4196.pdf
part A pins: 1, 2 -, 3 +
part B pins: 5 +, 6 -, 7
part C pins: 8, 9 -, 10 +
part D pins: 12 +, 13 -, 14
part E pins: 4 V+, 11 V-

## OPA4197xD
designator *  value OPA4197xD  Reference: U
ki_keywords: quad opamp rtor; ki_description: Quad 36V, Precision, Rail-to-Rail Input/Output, Low Offset Voltage, Operational Amplifier, SOIC-14; ki_fp_filters: SOIC*3.9x8.7mm*P1.27mm*; Footprint: Package_SO:SOIC-14_3.9x8.7mm_P1.27mm; Datasheet: http://www.ti.com/lit/ds/symlink/opa4197.pdf
part A pins: 1, 2 -, 3 +
part B pins: 5 +, 6 -, 7
part C pins: 8, 9 -, 10 +
part D pins: 12 +, 13 -, 14
part E pins: 4 V+, 11 V-

## OPA4197xPW
designator *  value OPA4197xPW  Reference: U
ki_keywords: quad opamp rtor; ki_description: Quad 36V, Precision, Rail-to-Rail Input/Output, Low Offset Voltage, Operational Amplifier, TSSOP-14; ki_fp_filters: TSSOP*4.4x5mm*P0.65mm*; Footprint: Package_SO:TSSOP-14_4.4x5mm_P0.65mm; Datasheet: http://www.ti.com/lit/ds/symlink/opa4197.pdf
part A pins: 1, 2 -, 3 +
part B pins: 5 +, 6 -, 7
part C pins: 8, 9 -, 10 +
part D pins: 12 +, 13 -, 14
part E pins: 4 V+, 11 V-

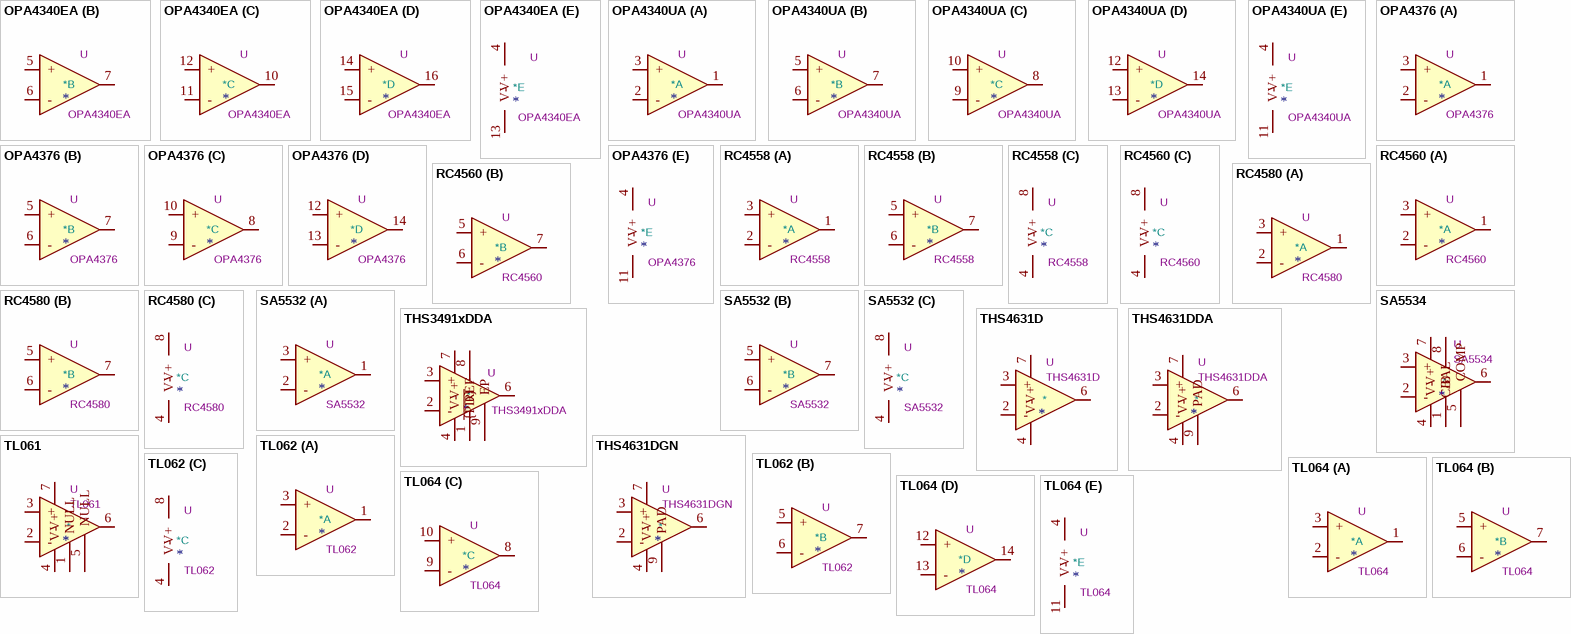
[diagram p16: symbols OPA4340EA to TL064]

## OPA4340EA
designator *  value OPA4340EA  Reference: U
ki_keywords: quad opamp; ki_description: Quad Single-Supply, Rail-to-Rail Operational Amplifier, MicroAmplifier Series, SSOP-16; ki_fp_filters: SSOP*3.9x4.9mm*P0.635mm* SOIC*3.9x9.9mm*P1.27mm* QSOP*3.9x4.9mm*P0.635mm*; Datasheet: http://www.ti.com/lit/ds/symlink/opa340.pdf
part A pins: 1, 2 -, 3 +, 8 NC hidden, 9 NC hidden
part B pins: 5 +, 6 -, 7
part C pins: 10, 11 -, 12 +
part D pins: 14 +, 15 -, 16
part E pins: 4 V+, 13 V-

## OPA4340UA
designator *  value OPA4340UA  Reference: U
ki_keywords: quad opamp; ki_description: Quad Single-Supply, Rail-to-Rail Operational Amplifier, MicroAmplifier Series, SOIC-14; ki_fp_filters: SOIC*3.9x8.7mm*P1.27mm* DIP*W7.62mm* TSSOP*4.4x5mm*P0.65mm* SSOP*5.3x6.2mm*P0.65mm* MSOP*3x3mm*P0.5mm*; Datasheet: http://www.ti.com/lit/ds/symlink/opa340.pdf
part A pins: 1, 2 -, 3 +
part B pins: 5 +, 6 -, 7
part C pins: 8, 9 -, 10 +
part D pins: 12 +, 13 -, 14
part E pins: 4 V+, 11 V-

## OPA4376
designator *  value OPA4376  Reference: U
ki_keywords: quad opamp; ki_description: Quad Low-Noise, Low Quiescent Current, Precision Operational Amplifier e-trim Series, SC-70-5; ki_fp_filters: SOIC*3.9x8.7mm*P1.27mm* DIP*W7.62mm* TSSOP*4.4x5mm*P0.65mm* SSOP*5.3x6.2mm*P0.65mm* MSOP*3x3mm*P0.5mm*; Datasheet: http://www.ti.com/lit/ds/symlink/opa376.pdf
part A pins: 1, 2 -, 3 +
part B pins: 5 +, 6 -, 7
part C pins: 8, 9 -, 10 +
part D pins: 12 +, 13 -, 14
part E pins: 4 V+, 11 V-

## RC4558
designator *  value RC4558  Reference: U
ki_keywords: dual opamp; ki_description: Dual General Purpose, Operational Amplifier, DIP-8/SOIC-8/SSOP-8; ki_fp_filters: SOIC*3.9x4.9mm*P1.27mm* DIP*W7.62mm* TO*99* OnSemi*Micro8* TSSOP*3x3mm*P0.65mm* TSSOP*4.4x3mm*P0.65mm* MSOP*3x3mm*P0.65mm* SSOP*3.9x4.9mm*P0.635mm* LFCSP*2x2mm*P0.5mm* *SIP* SOIC*5.3x6.2mm*P1.27mm*; Datasheet: http://www.ti.com/lit/ds/symlink/rc4558.pdf
part A pins: 1, 2 -, 3 +
part B pins: 5 +, 6 -, 7
part C pins: 4 V-, 8 V+

## RC4560
designator *  value RC4560  Reference: U
ki_keywords: dual opamp; ki_description: Dual Audio Operational Amplifier, DIP-8/SOIC-8/SSOP-8; ki_fp_filters: SOIC*3.9x4.9mm*P1.27mm* DIP*W7.62mm* TO*99* OnSemi*Micro8* TSSOP*3x3mm*P0.65mm* TSSOP*4.4x3mm*P0.65mm* MSOP*3x3mm*P0.65mm* SSOP*3.9x4.9mm*P0.635mm* LFCSP*2x2mm*P0.5mm* *SIP* SOIC*5.3x6.2mm*P1.27mm*; Datasheet: http://www.ti.com/lit/ds/symlink/rc4560.pdf
part A pins: 1, 2 -, 3 +
part B pins: 5 +, 6 -, 7
part C pins: 4 V-, 8 V+

## RC4580
designator *  value RC4580  Reference: U
ki_keywords: dual opamp; ki_description: Dual Audio Operational Amplifier, SOIC-8/SSOP-8; ki_fp_filters: SOIC*3.9x4.9mm*P1.27mm* DIP*W7.62mm* TO*99* OnSemi*Micro8* TSSOP*3x3mm*P0.65mm* TSSOP*4.4x3mm*P0.65mm* MSOP*3x3mm*P0.65mm* SSOP*3.9x4.9mm*P0.635mm* LFCSP*2x2mm*P0.5mm* *SIP* SOIC*5.3x6.2mm*P1.27mm*; Datasheet: http://www.ti.com/lit/ds/symlink/rc4580.pdf
part A pins: 1, 2 -, 3 +
part B pins: 5 +, 6 -, 7
part C pins: 4 V-, 8 V+

## SA5532
designator *  value SA5532  Reference: U
ki_keywords: dual opamp; ki_description: Dual Low-Noise Operational Amplifiers, DIP-8/SOIC-8; ki_fp_filters: SOIC*3.9x4.9mm*P1.27mm* DIP*W7.62mm* TO*99* OnSemi*Micro8* TSSOP*3x3mm*P0.65mm* TSSOP*4.4x3mm*P0.65mm* MSOP*3x3mm*P0.65mm* SSOP*3.9x4.9mm*P0.635mm* LFCSP*2x2mm*P0.5mm* *SIP* SOIC*5.3x6.2mm*P1.27mm*; Datasheet: http://www.ti.com/lit/ds/symlink/ne5532.pdf
part A pins: 1, 2 -, 3 +
part B pins: 5 +, 6 -, 7
part C pins: 4 V-, 8 V+

## SA5534
designator *  value SA5534  Reference: U
ki_keywords: single opamp; ki_description: Single Low-Noise Operational Amplifiers, DIP-8/SOIC-8; ki_fp_filters: DIP*W7.62mm* SOIC*3.9x4.9mm*P1.27mm* TO?5*; Datasheet: http://www.ti.com/lit/ds/symlink/ne5534.pdf
pins: 1 BAL, 2 -, 3 +, 4 V-, 5 COMP, 6, 7 V+, 8 C/B

## THS3491xDDA
designator *  value THS3491xDDA  Reference: U
ki_keywords: opamp single current feedback wideband; ki_description: 900-MHz, 500-mA High-Power Output Current Feedback Operational Amplifier, SOIC-8; ki_fp_filters: Texas*R*PDSO*G8*EP*; Footprint: Package_SO:Texas_R-PDSO-G8_EP2.95x4.9mm_Mask2.4x3.1mm; Datasheet: http://www.ti.com/lit/ds/symlink/ths3491.pdf
pins: 1 REF, 2 -, 3 +, 4 V-, 5 NC hidden, 6, 7 V+, 8 ~{{PD}}, 9 EP

## THS4631D
designator *  value THS4631D  Reference: U
ki_keywords: single opamp; ki_description: Single High-voltage, High Slew Rate, Wideband, FET-input Operational Amplifier, SOIC-8; ki_fp_filters: SOIC*3.9x4.9mm*P1.27mm*; Footprint: Package_SO:SOIC-8_3.9x4.9mm_P1.27mm; Datasheet: www.ti.com/lit/ds/symlink/ths4631.pdf
pins: 1 NC hidden, 2 -, 3 +, 4 V-, 5 NC hidden, 6, 7 V+, 8 NC hidden

## THS4631DDA
designator *  value THS4631DDA  Reference: U
ki_keywords: single opamp; ki_description: Single High-voltage, High Slew Rate, Wideband, FET-input Operational Amplifier, SOIC-8; ki_fp_filters: SOIC*1EP*3.9x4.9mm*P1.27mm* MSOP*1EP*3x3mm*P0.65mm*; Datasheet: www.ti.com/lit/ds/symlink/ths4631.pdf
pins: 1 NC hidden, 2 -, 3 +, 4 V-, 5 NC hidden, 6, 7 V+, 8 NC hidden, 9 PAD

## THS4631DGN
designator *  value THS4631DGN  Reference: U
ki_keywords: single opamp; ki_description: Single High-voltage, High Slew Rate, Wideband, FET-input Operational Amplifier, MSOP-8; ki_fp_filters: SOIC*1EP*3.9x4.9mm*P1.27mm* MSOP*1EP*3x3mm*P0.65mm*; Datasheet: www.ti.com/lit/ds/symlink/ths4631.pdf
pins: 1 NC hidden, 2 -, 3 +, 4 V-, 5 NC hidden, 6, 7 V+, 8 NC hidden, 9 PAD

## TL061
designator *  value TL061  Reference: U
ki_keywords: single opamp; ki_description: Single Low-Power JFET-Input Operational Amplifiers, DIP-8/SOIC-8; ki_fp_filters: SOIC*3.9x4.9mm*P1.27mm* DIP*W7.62mm* TSSOP*3x3mm*P0.65mm*; Datasheet: http://www.ti.com/lit/ds/symlink/tl061.pdf
pins: 1 NULL, 2 -, 3 +, 4 V-, 5 NULL, 6, 7 V+, 8 NC hidden

## TL062
designator *  value TL062  Reference: U
ki_keywords: dual opamp; ki_description: Dual Low-Power JFET-Input Operational Amplifiers, DIP-8/SOIC-8/SSOP-8; ki_fp_filters: SOIC*3.9x4.9mm*P1.27mm* DIP*W7.62mm* TO*99* OnSemi*Micro8* TSSOP*3x3mm*P0.65mm* TSSOP*4.4x3mm*P0.65mm* MSOP*3x3mm*P0.65mm* SSOP*3.9x4.9mm*P0.635mm* LFCSP*2x2mm*P0.5mm* *SIP* SOIC*5.3x6.2mm*P1.27mm*; Datasheet: http://www.ti.com/lit/ds/symlink/tl061.pdf
part A pins: 1, 2 -, 3 +
part B pins: 5 +, 6 -, 7
part C pins: 4 V-, 8 V+

## TL064
designator *  value TL064  Reference: U
ki_keywords: quad opamp; ki_description: Quad Low-Power JFET-Input Operational Amplifiers, DIP-14/SOIC-14/SSOP-14; ki_fp_filters: SOIC*3.9x8.7mm*P1.27mm* DIP*W7.62mm* TSSOP*4.4x5mm*P0.65mm* SSOP*5.3x6.2mm*P0.65mm* MSOP*3x3mm*P0.5mm*; Datasheet: http://www.ti.com/lit/ds/symlink/tl061.pdf
part A pins: 1, 2 -, 3 +
part B pins: 5 +, 6 -, 7
part C pins: 8, 9 -, 10 +
part D pins: 12 +, 13 -, 14
part E pins: 4 V+, 11 V-

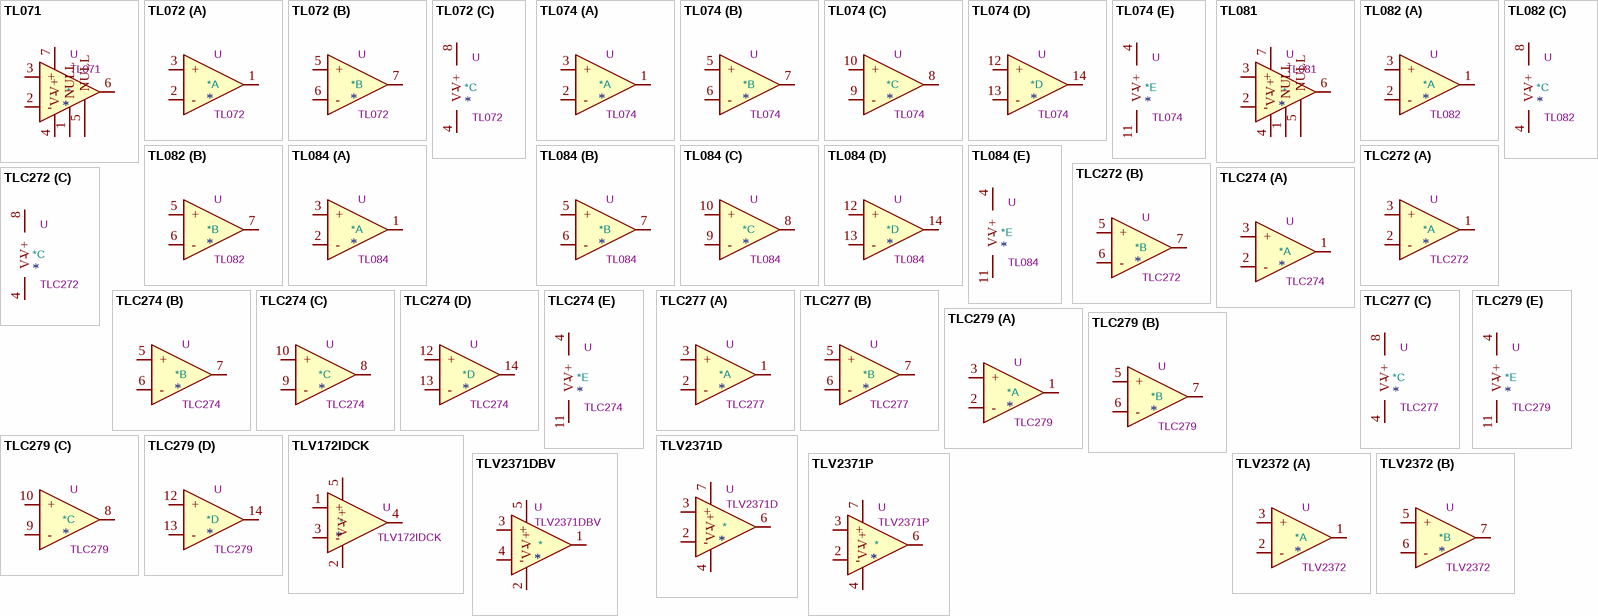
[diagram p17: symbols TL071 to TLV2372]

## TL071
designator *  value TL071  Reference: U
ki_keywords: singel opamp; ki_description: Single Low-Noise JFET-Input Operational Amplifiers, DIP-8/SOIC-8; ki_fp_filters: SOIC*3.9x4.9mm*P1.27mm* DIP*W7.62mm* TSSOP*3x3mm*P0.65mm*; Datasheet: http://www.ti.com/lit/ds/symlink/tl071.pdf
pins: 1 NULL, 2 -, 3 +, 4 V-, 5 NULL, 6, 7 V+, 8 NC hidden

## TL072
designator *  value TL072  Reference: U
ki_keywords: dual opamp; ki_description: Dual Low-Noise JFET-Input Operational Amplifiers, DIP-8/SOIC-8; ki_fp_filters: SOIC*3.9x4.9mm*P1.27mm* DIP*W7.62mm* TO*99* OnSemi*Micro8* TSSOP*3x3mm*P0.65mm* TSSOP*4.4x3mm*P0.65mm* MSOP*3x3mm*P0.65mm* SSOP*3.9x4.9mm*P0.635mm* LFCSP*2x2mm*P0.5mm* *SIP* SOIC*5.3x6.2mm*P1.27mm*; Datasheet: http://www.ti.com/lit/ds/symlink/tl071.pdf
part A pins: 1, 2 -, 3 +
part B pins: 5 +, 6 -, 7
part C pins: 4 V-, 8 V+

## TL074
designator *  value TL074  Reference: U
ki_keywords: quad opamp; ki_description: Quad Low-Noise JFET-Input Operational Amplifiers, DIP-14/SOIC-14; ki_fp_filters: SOIC*3.9x8.7mm*P1.27mm* DIP*W7.62mm* TSSOP*4.4x5mm*P0.65mm* SSOP*5.3x6.2mm*P0.65mm* MSOP*3x3mm*P0.5mm*; Datasheet: http://www.ti.com/lit/ds/symlink/tl071.pdf
part A pins: 1, 2 -, 3 +
part B pins: 5 +, 6 -, 7
part C pins: 8, 9 -, 10 +
part D pins: 12 +, 13 -, 14
part E pins: 4 V+, 11 V-

## TL081
designator *  value TL081  Reference: U
ki_keywords: single opamp; ki_description: Single JFET-Input Operational Amplifiers, DIP-8/SOIC-8; ki_fp_filters: SOIC*3.9x4.9mm*P1.27mm* DIP*W7.62mm* TSSOP*3x3mm*P0.65mm*; Datasheet: http://www.ti.com/lit/ds/symlink/tl081.pdf
pins: 1 NULL, 2 -, 3 +, 4 V-, 5 NULL, 6, 7 V+, 8 NC hidden

## TL082
designator *  value TL082  Reference: U
ki_keywords: dual opamp; ki_description: Dual JFET-Input Operational Amplifiers, DIP-8/SOIC-8/SSOP-8; ki_fp_filters: SOIC*3.9x4.9mm*P1.27mm* DIP*W7.62mm* TO*99* OnSemi*Micro8* TSSOP*3x3mm*P0.65mm* TSSOP*4.4x3mm*P0.65mm* MSOP*3x3mm*P0.65mm* SSOP*3.9x4.9mm*P0.635mm* LFCSP*2x2mm*P0.5mm* *SIP* SOIC*5.3x6.2mm*P1.27mm*; Datasheet: http://www.ti.com/lit/ds/symlink/tl081.pdf
part A pins: 1, 2 -, 3 +
part B pins: 5 +, 6 -, 7
part C pins: 4 V-, 8 V+

## TL084
designator *  value TL084  Reference: U
ki_keywords: quad opamp; ki_description: Quad JFET-Input Operational Amplifiers, DIP-14/SOIC-14/SSOP-14; ki_fp_filters: SOIC*3.9x8.7mm*P1.27mm* DIP*W7.62mm* TSSOP*4.4x5mm*P0.65mm* SSOP*5.3x6.2mm*P0.65mm* MSOP*3x3mm*P0.5mm*; Datasheet: http://www.ti.com/lit/ds/symlink/tl081.pdf
part A pins: 1, 2 -, 3 +
part B pins: 5 +, 6 -, 7
part C pins: 8, 9 -, 10 +
part D pins: 12 +, 13 -, 14
part E pins: 4 V+, 11 V-

## TLC272
designator *  value TLC272  Reference: U
ki_keywords: dual opamp; ki_description: Dual LinCMOS Precision Dual Operational Amplifiers, DIP-8/SOIC-8/SSOP-8; ki_fp_filters: SOIC*3.9x4.9mm*P1.27mm* DIP*W7.62mm* TO*99* OnSemi*Micro8* TSSOP*3x3mm*P0.65mm* TSSOP*4.4x3mm*P0.65mm* MSOP*3x3mm*P0.65mm* SSOP*3.9x4.9mm*P0.635mm* LFCSP*2x2mm*P0.5mm* *SIP* SOIC*5.3x6.2mm*P1.27mm*; Datasheet: http://www.ti.com/lit/ds/symlink/tlc272.pdf
part A pins: 1, 2 -, 3 +
part B pins: 5 +, 6 -, 7
part C pins: 4 V-, 8 V+

## TLC274
designator *  value TLC274  Reference: U
ki_keywords: quad opamp; ki_description: Quad LinCMOS Precision Quad Operational Amplifiers, DIP-14/SOIC-14/SSOP-14; ki_fp_filters: SOIC*3.9x8.7mm*P1.27mm* DIP*W7.62mm* TSSOP*4.4x5mm*P0.65mm* SSOP*5.3x6.2mm*P0.65mm* MSOP*3x3mm*P0.5mm*; Datasheet: http://www.ti.com/lit/ds/symlink/tlc274.pdf
part A pins: 1, 2 -, 3 +
part B pins: 5 +, 6 -, 7
part C pins: 8, 9 -, 10 +
part D pins: 12 +, 13 -, 14
part E pins: 4 V+, 11 V-

## TLC277
designator *  value TLC277  Reference: U
ki_keywords: dual opamp; ki_description: Dual LinCMOS Precision Dual Operational Amplifiers, DIP-8/SOIC-8/SSOP-8; ki_fp_filters: SOIC*3.9x4.9mm*P1.27mm* DIP*W7.62mm* TO*99* OnSemi*Micro8* TSSOP*3x3mm*P0.65mm* TSSOP*4.4x3mm*P0.65mm* MSOP*3x3mm*P0.65mm* SSOP*3.9x4.9mm*P0.635mm* LFCSP*2x2mm*P0.5mm* *SIP* SOIC*5.3x6.2mm*P1.27mm*; Datasheet: http://www.ti.com/lit/ds/symlink/tlc272.pdf
part A pins: 1, 2 -, 3 +
part B pins: 5 +, 6 -, 7
part C pins: 4 V-, 8 V+

## TLC279
designator *  value TLC279  Reference: U
ki_keywords: quad opamp; ki_description: Quad LinCMOS Precision Quad Operational Amplifiers, DIP-14/SOIC-14/SSOP-14; ki_fp_filters: SOIC*3.9x8.7mm*P1.27mm* DIP*W7.62mm* TSSOP*4.4x5mm*P0.65mm* SSOP*5.3x6.2mm*P0.65mm* MSOP*3x3mm*P0.5mm*; Datasheet: http://www.ti.com/lit/ds/symlink/tlc274.pdf
part A pins: 1, 2 -, 3 +
part B pins: 5 +, 6 -, 7
part C pins: 8, 9 -, 10 +
part D pins: 12 +, 13 -, 14
part E pins: 4 V+, 11 V-

## TLV172IDCK
designator *  value TLV172IDCK  Reference: U
ki_keywords: op amp operational amplifier; ki_description: Low-power Operational Amplifier, SOT-353; ki_fp_filters: SOT*353*SC*70*; Footprint: Package_TO_SOT_SMD:SOT-353_SC-70-5; Datasheet: http://www.ti.com/lit/ds/symlink/tlv172.pdf
pins: 1 +, 2 V-, 3 -, 4, 5 V+

## TLV2371D
designator *  value TLV2371D  Reference: U
ki_keywords: single opamp; ki_description: Rail-to-Rail Input/Output Operational Amplifier, SOIC-8; ki_fp_filters: SOIC*3.9x4.9mm*P1.27mm*; Footprint: Package_SO:SOIC-8_3.9x4.9mm_P1.27mm; Datasheet: http://www.ti.com/lit/ds/symlink/tlv2375.pdf
pins: 1 NC hidden, 2 -, 3 +, 4 V-, 5 NC hidden, 6, 7 V+, 8 NC hidden

## TLV2371DBV
designator *  value TLV2371DBV  Reference: U
ki_keywords: single opamp; ki_description: Rail-to-Rail Input/Output Operational Amplifier, SOT-23-5; ki_fp_filters: SOT?23*; Footprint: Package_TO_SOT_SMD:SOT-23-5; Datasheet: http://www.ti.com/lit/ds/symlink/tlv2375.pdf
pins: 1, 2 V-, 3 +, 4 -, 5 V+

## TLV2371P
designator *  value TLV2371P  Reference: U
ki_keywords: single opamp; ki_description: Rail-to-Rail Input/Output Operational Amplifier, PDIP-8; ki_fp_filters: DIP*W7.62mm*; Footprint: Package_DIP:DIP-8_W7.62mm; Datasheet: http://www.ti.com/lit/ds/symlink/tlv2375.pdf
pins: 1 NC hidden, 2 -, 3 +, 4 V-, 5 NC hidden, 6, 7 V+, 8 NC hidden

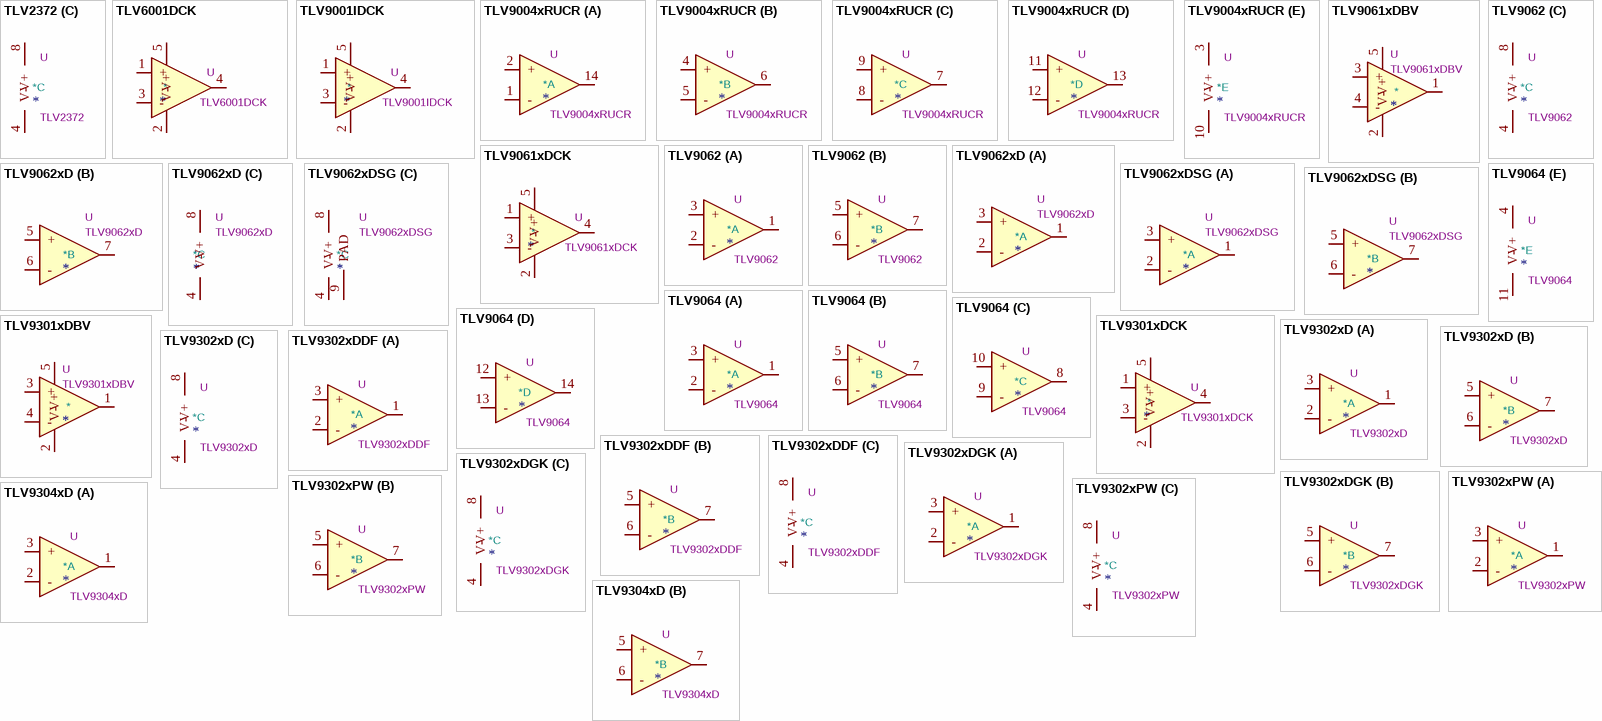
[diagram p18: symbols TLV2372 to TLV9304xD]

## TLV2372
designator *  value TLV2372  Reference: U
ki_keywords: dual opamp; ki_description: Dual Rail-to-Rail Input/Output Operational Amplifier, DIP-8/SOIC-8/VSSOP-8; ki_fp_filters: SOIC*3.9x4.9mm*P1.27mm* DIP*W7.62mm* TO*99* OnSemi*Micro8* TSSOP*3x3mm*P0.65mm* TSSOP*4.4x3mm*P0.65mm* MSOP*3x3mm*P0.65mm* SSOP*3.9x4.9mm*P0.635mm* LFCSP*2x2mm*P0.5mm* *SIP* SOIC*5.3x6.2mm*P1.27mm*; Datasheet: http://www.ti.com/lit/ds/symlink/tlv2375.pdf
part A pins: 1, 2 -, 3 +
part B pins: 5 +, 6 -, 7
part C pins: 4 V-, 8 V+

## TLV6001DCK
designator *  value TLV6001DCK  Reference: U
ki_keywords: op amp operational amplifier; ki_description: Low-power, Rail-to-rail, 1MHz Operational Amplifier, SOT-353; ki_fp_filters: SOT*353*SC*70*; Footprint: Package_TO_SOT_SMD:SOT-353_SC-70-5; Datasheet: http://www.ti.com/lit/ds/symlink/tlv6001.pdf
pins: 1 +, 2 V-, 3 -, 4, 5 V+

## TLV9001IDCK
designator *  value TLV9001IDCK  Reference: U
ki_keywords: op amp operational amplifier; ki_description: Low-power, Rail-to-Rail, 1MHz Operational Amplifier, SOT-353; ki_fp_filters: SOT*353*SC*70*; Footprint: Package_TO_SOT_SMD:SOT-353_SC-70-5; Datasheet: https://www.ti.com/lit/ds/symlink/tlv9001.pdf
pins: 1 +, 2 V-, 3 -, 4, 5 V+

## TLV9004xRUCR
designator *  value TLV9004xRUCR  Reference: U
ki_keywords: quad opamp; ki_description: Low-Power, Quad-Operational Amplifiers, Texas S-PX2QFN-14; ki_fp_filters: Texas*S*PX2QFN*; Footprint: Package_DFN_QFN:Texas_S-PX2QFN-14; Datasheet: http://www.ti.com/lit/ds/symlink/tlv9004.pdf
part A pins: 1 -, 2 +, 14
part B pins: 4 +, 5 -, 6
part C pins: 7, 8 -, 9 +
part D pins: 11 +, 12 -, 13
part E pins: 3 V+, 10 V-

## TLV9061xDBV
designator *  value TLV9061xDBV  Reference: U
ki_keywords: single opamp rail to rail input output; ki_description: 10-MHz, RRIO, CMOS Operational Amplifiers for Cost-Sensitive Systems, SOT-23-5; ki_fp_filters: SOT?23*; Footprint: Package_TO_SOT_SMD:SOT-23-5; Datasheet: https://www.ti.com/lit/ds/symlink/tlv9061.pdf
pins: 1, 2 V-, 3 +, 4 -, 5 V+

## TLV9061xDCK
designator *  value TLV9061xDCK  Reference: U
ki_keywords: single opamp rail to rail input output; ki_description: 10-MHz, RRIO, CMOS Operational Amplifiers for Cost-Sensitive Systems, SC-70; ki_fp_filters: SOT*353*SC*70*; Footprint: Package_TO_SOT_SMD:SOT-353_SC-70-5; Datasheet: https://www.ti.com/lit/ds/symlink/tlv9061.pdf
pins: 1 +, 2 V-, 3 -, 4, 5 V+

## TLV9062
designator *  value TLV9062  Reference: U
ki_keywords: dual opamp; ki_description: Dual Operational Amplifiers, SOIC-8/TSSOP-8/VSSOP-8; ki_fp_filters: SOIC*3.9x4.9mm*P1.27mm* TSSOP*4.4x3mm*P0.65mm* VSSOP*3x3mm*P0.5mm*; Datasheet: https://www.ti.com/lit/ds/symlink/tlv9062.pdf
part A pins: 1, 2 -, 3 +
part B pins: 5 +, 6 -, 7
part C pins: 4 V-, 8 V+

## TLV9062xD
designator *  value TLV9062xD  Reference: U
ki_keywords: dual op-amp low power; ki_description: Dual operational amplifier, 300 uV Offset, SOIC-8; ki_fp_filters: SOIC*3.9x4.9mm*P1.27mm*; Footprint: Package_SO:SOIC-8_3.9x4.9mm_P1.27mm; Datasheet: https://www.ti.com/lit/ds/symlink/tlv9062.pdf
part A pins: 1, 2 -, 3 +
part B pins: 5 +, 6 -, 7
part C pins: 4 V-, 8 V+

## TLV9062xDSG
designator *  value TLV9062xDSG  Reference: U
ki_keywords: dual opamp low-power; ki_description: Dual operational amplifier, 210uV Offset, 0.25uV/C, low-noise, WSON-8; ki_fp_filters: WSON*1EP?2x2mm*P0.5mm*; Footprint: Package_SON:WSON-8-1EP_2x2mm_P0.5mm_EP0.9x1.6mm_ThermalVias; Datasheet: https://www.ti.com/lit/ds/symlink/tlv9062.pdf
part A pins: 1, 2 -, 3 +
part B pins: 5 +, 6 -, 7
part C pins: 4 V-, 8 V+, 9 PAD

## TLV9064
designator *  value TLV9064  Reference: U
ki_keywords: quad opamp; ki_description: Quad Rail-to-Rail, Operational Amplifiers, 10MHz, SOIC-14/TSSOP-14; ki_fp_filters: SOIC*3.9x8.7mm*P1.27mm* TSSOP*4.4x5mm*P0.65mm*; Datasheet: https://www.ti.com/lit/ds/symlink/tlv9064.pdf
part A pins: 1, 2 -, 3 +
part B pins: 5 +, 6 -, 7
part C pins: 8, 9 -, 10 +
part D pins: 12 +, 13 -, 14
part E pins: 4 V+, 11 V-

## TLV9301xDBV
designator *  value TLV9301xDBV  Reference: U
ki_keywords: single opamp 40V rail to rail output; ki_description: 40-V, 1-MHz, RRO Operational Amplifiers for Cost-Sensitive Systems, SOT-23-5; ki_fp_filters: SOT?23*; Footprint: Package_TO_SOT_SMD:SOT-23-5; Datasheet: https://www.ti.com/lit/ds/symlink/tlv9301.pdf
pins: 1, 2 V-, 3 +, 4 -, 5 V+

## TLV9301xDCK
designator *  value TLV9301xDCK  Reference: U
ki_keywords: op amp operational amplifier 40V rail to rail output; ki_description: 40-V, 1-MHz, RRO Operational Amplifiers for Cost-Sensitive Systems, SC-70; ki_fp_filters: SOT*353*SC*70*; Footprint: Package_TO_SOT_SMD:SOT-353_SC-70-5; Datasheet: https://www.ti.com/lit/ds/symlink/tlv9301.pdf
pins: 1 +, 2 V-, 3 -, 4, 5 V+

## TLV9302xD
designator *  value TLV9302xD  Reference: U
ki_keywords: dual opamp 40V rail to rail output; ki_description: 40-V, 1-MHz, RRO Operational Amplifiers for Cost-Sensitive Systems, SOIC-8; ki_fp_filters: SOIC*3.9x4.9mm*P1.27mm*; Footprint: Package_SO:SOIC-8_3.9x4.9mm_P1.27mm; Datasheet: https://www.ti.com/lit/ds/symlink/tlv9302.pdf
part A pins: 1, 2 -, 3 +
part B pins: 5 +, 6 -, 7
part C pins: 4 V-, 8 V+

## TLV9302xDDF
designator *  value TLV9302xDDF  Reference: U
ki_keywords: dual opamp 40V rail to rail output; ki_description: 40-V, 1-MHz, RRO Operational Amplifiers for Cost-Sensitive Systems, SOT-23-8; ki_fp_filters: SOT?23*; Footprint: Package_TO_SOT_SMD:SOT-23-8; Datasheet: https://www.ti.com/lit/ds/symlink/tlv9302.pdf
part A pins: 1, 2 -, 3 +
part B pins: 5 +, 6 -, 7
part C pins: 4 V-, 8 V+

## TLV9302xDGK
designator *  value TLV9302xDGK  Reference: U
ki_keywords: dual opamp 40V rail to rail output; ki_description: 40-V, 1-MHz, RRO Operational Amplifiers for Cost-Sensitive Systems, VSSOP-8; ki_fp_filters: MSOP*3x3mm*P0.65mm*; Footprint: Package_SO:MSOP-8_3x3mm_P0.65mm; Datasheet: https://www.ti.com/lit/ds/symlink/tlv9302.pdf
part A pins: 1, 2 -, 3 +
part B pins: 5 +, 6 -, 7
part C pins: 4 V-, 8 V+

## TLV9302xPW
designator *  value TLV9302xPW  Reference: U
ki_keywords: dual opamp 40V rail to rail output; ki_description: 40-V, 1-MHz, RRO Operational Amplifiers for Cost-Sensitive Systems, TSSOP-8; ki_fp_filters: TSSOP*4.4x3mm*P0.65mm*; Footprint: Package_SO:TSSOP-8_4.4x3mm_P0.65mm; Datasheet: https://www.ti.com/lit/ds/symlink/tlv9302.pdf
part A pins: 1, 2 -, 3 +
part B pins: 5 +, 6 -, 7
part C pins: 4 V-, 8 V+

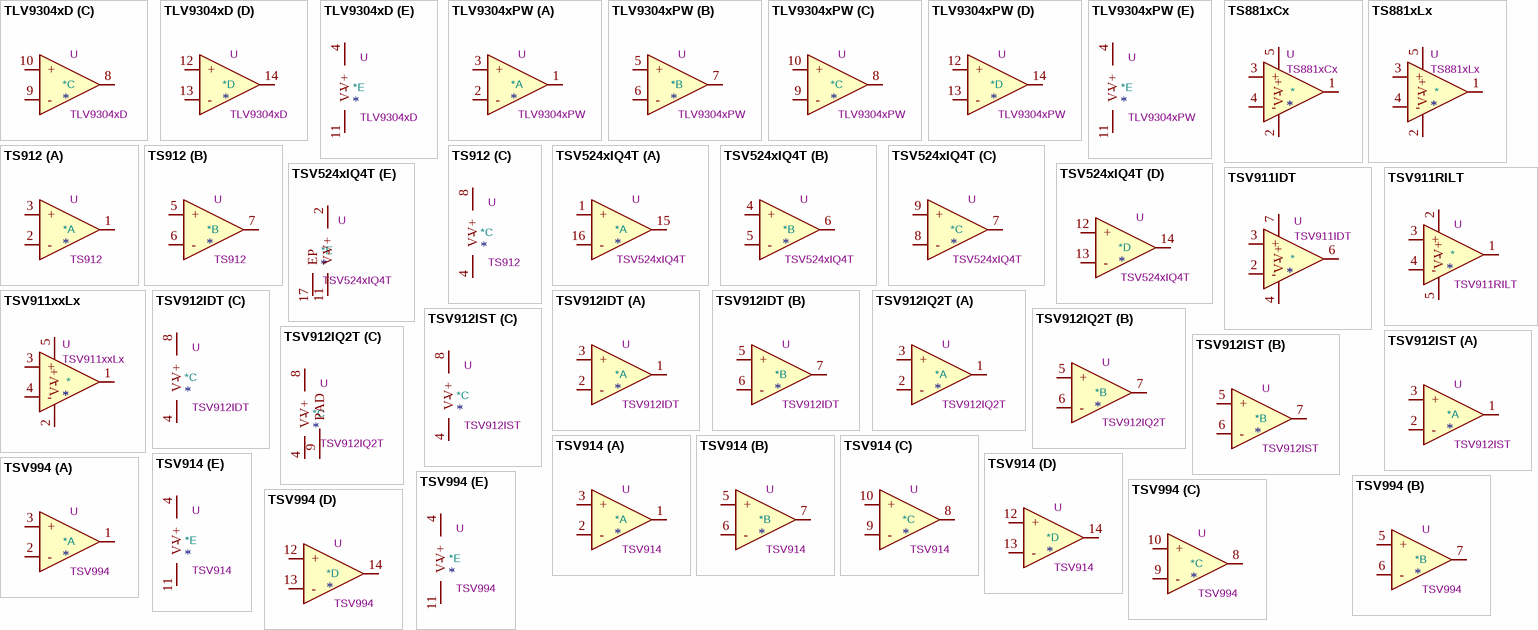
[diagram p19: symbols TLV9304xD to TSV994]

## TLV9304xD
designator *  value TLV9304xD  Reference: U
ki_keywords: quad opamp 40V rail to rail output; ki_description: 40-V, 1-MHz, RRO Operational Amplifiers for Cost-Sensitive Systems, SOIC-14; ki_fp_filters: SO*3.9x8.65mm*P1.27mm*; Footprint: Package_SO:SO-14_3.9x8.65mm_P1.27mm; Datasheet: https://www.ti.com/lit/ds/symlink/tlv9304.pdf
part A pins: 1, 2 -, 3 +
part B pins: 5 +, 6 -, 7
part C pins: 8, 9 -, 10 +
part D pins: 12 +, 13 -, 14
part E pins: 4 V+, 11 V-

## TLV9304xPW
designator *  value TLV9304xPW  Reference: U
ki_keywords: quad opamp 40V rail to rail output; ki_description: 40-V, 1-MHz, RRO Operational Amplifiers for Cost-Sensitive Systems, TSSOP-14; ki_fp_filters: TSSOP*4.4x5mm*P0.65mm*; Footprint: Package_SO:TSSOP-14_4.4x5mm_P0.65mm; Datasheet: https://www.ti.com/lit/ds/symlink/tlv9304.pdf
part A pins: 1, 2 -, 3 +
part B pins: 5 +, 6 -, 7
part C pins: 8, 9 -, 10 +
part D pins: 12 +, 13 -, 14
part E pins: 4 V+, 11 V-

## TS881xCx
designator *  value TS881xCx  Reference: U
ki_keywords: single comparator; ki_description: Rail-to-rail 0.9V nanopower comparator, SC-70-5; ki_fp_filters: *SC?70*; Footprint: Package_TO_SOT_SMD:SOT-353_SC-70-5; Datasheet: http://www.st.com/content/ccc/resource/technical/document/datasheet/a2/60/3e/5d/b2/c1/4a/e9/DM00057901.pdf/files/DM00057901.pdf/jcr:content/translations/en.DM00057901.pdf
pins: 1, 2 V-, 3 +, 4 -, 5 V+

## TS881xLx
designator *  value TS881xLx  Reference: U
ki_keywords: single comparator; ki_description: Rail-to-rail 0.9V nanopower comparator, SOT-23-5; ki_fp_filters: SOT?23*; Footprint: Package_TO_SOT_SMD:SOT-23-5; Datasheet: www.st.com/resource/en/datasheet/ts881.pdf
pins: 1, 2 V-, 3 +, 4 -, 5 V+

## TS912
designator *  value TS912  Reference: U
ki_keywords: dual opamp; ki_description: Dual Rail-to-rail CMOS Operational Amplifier, DIP-8/SOIC-8; ki_fp_filters: SOIC*3.9x4.9mm*P1.27mm* DIP*W7.62mm* TO*99* OnSemi*Micro8* TSSOP*3x3mm*P0.65mm* TSSOP*4.4x3mm*P0.65mm* MSOP*3x3mm*P0.65mm* SSOP*3.9x4.9mm*P0.635mm* LFCSP*2x2mm*P0.5mm* *SIP* SOIC*5.3x6.2mm*P1.27mm*; Datasheet: www.st.com/resource/en/datasheet/ts912.pdf
part A pins: 1, 2 -, 3 +
part B pins: 5 +, 6 -, 7
part C pins: 4 V-, 8 V+

## TSV524xIQ4T
designator *  value TSV524xIQ4T  Reference: U
ki_keywords: quad opamp; ki_description: Quad CMOS Rail-to-Rail Input/Output Amplifier, 1.15MHz GBP, QFN-16; ki_fp_filters: QFN*1EP*3x3mm*P0.5mm*; Footprint: Package_DFN_QFN:QFN-16-1EP_3x3mm_P0.5mm_EP1.7x1.7mm; Datasheet: https://www.st.com/resource/en/datasheet/tsv521.pdf
part A pins: 1 +, 15, 16 -
part B pins: 4 +, 5 -, 6
part C pins: 7, 8 -, 9 +
part D pins: 12 +, 13 -, 14
part E pins: 2 V+, 3 NC hidden, 10 NC hidden, 11 V-, 17 EP

## TSV911IDT
designator *  value TSV911IDT  Reference: U
ki_keywords: single opamp; ki_description: Single rail-to-rail input/output 8 MHz operational amplifiers, SOIC-8; ki_fp_filters: SOIC*3.9x4.9mm*P1.27mm*; Footprint: Package_SO:SOIC-8_3.9x4.9mm_P1.27mm; Datasheet: www.st.com/resource/en/datasheet/tsv911.pdf
pins: 1 NC hidden, 2 -, 3 +, 4 V-, 5 NC hidden, 6, 7 V+, 8 NC hidden

## TSV911RILT
designator *  value TSV911RILT  Reference: U
ki_keywords: single opamp; ki_description: Single rail-to-rail input/output 8 MHz operational amplifiers, SOT-23-5; ki_fp_filters: SOT?23*; Footprint: Package_TO_SOT_SMD:SOT-23-5; Datasheet: www.st.com/resource/en/datasheet/tsv911.pdf
pins: 1, 2 V+, 3 +, 4 -, 5 V-

## TSV911xxLx
designator *  value TSV911xxLx  Reference: U
ki_keywords: single opamp; ki_description: Single rail-to-rail input/output 8 MHz operational amplifiers, SOT-23-5; ki_fp_filters: SOT?23*; Footprint: Package_TO_SOT_SMD:SOT-23-5; Datasheet: www.st.com/resource/en/datasheet/tsv911.pdf
pins: 1, 2 V-, 3 +, 4 -, 5 V+

## TSV912IDT
designator *  value TSV912IDT  Reference: U
ki_keywords: dual opamp; ki_description: Dual rail-to-rail input/output 8 MHz operational amplifiers, SOIC-8; ki_fp_filters: SOIC*3.9x4.9mm*P1.27mm* DIP*W7.62mm* TO*99* OnSemi*Micro8* TSSOP*3x3mm*P0.65mm* TSSOP*4.4x3mm*P0.65mm* MSOP*3x3mm*P0.65mm* SSOP*3.9x4.9mm*P0.635mm* LFCSP*2x2mm*P0.5mm* *SIP* SOIC*5.3x6.2mm*P1.27mm*; Datasheet: www.st.com/resource/en/datasheet/tsv911.pdf
part A pins: 1, 2 -, 3 +
part B pins: 5 +, 6 -, 7
part C pins: 4 V-, 8 V+

## TSV912IQ2T
designator *  value TSV912IQ2T  Reference: U
ki_keywords: dual opamp; ki_description: Dual rail-to-rail input/output 8 MHz operational amplifiers, DFN-8; ki_fp_filters: DFN*2x2mm*P0.5mm*; Footprint: Package_DFN_QFN:DFN-8-1EP_2x2mm_P0.5mm_EP1.05x1.75mm; Datasheet: www.st.com/resource/en/datasheet/tsv911.pdf
part A pins: 1, 2 -, 3 +
part B pins: 5 +, 6 -, 7
part C pins: 4 V-, 8 V+, 9 PAD

## TSV912IST
designator *  value TSV912IST  Reference: U
ki_keywords: dual opamp; ki_description: Dual rail-to-rail input/output 8 MHz operational amplifiers, MiniSO-8; ki_fp_filters: SOIC*3.9x4.9mm*P1.27mm* DIP*W7.62mm* TO*99* OnSemi*Micro8* TSSOP*3x3mm*P0.65mm* TSSOP*4.4x3mm*P0.65mm* MSOP*3x3mm*P0.65mm* SSOP*3.9x4.9mm*P0.635mm* LFCSP*2x2mm*P0.5mm* *SIP* SOIC*5.3x6.2mm*P1.27mm*; Datasheet: www.st.com/resource/en/datasheet/tsv911.pdf
part A pins: 1, 2 -, 3 +
part B pins: 5 +, 6 -, 7
part C pins: 4 V-, 8 V+